# Altium integrated library Altera FLEX 10K.IntLib: 292 symbols (part 35 of 37)
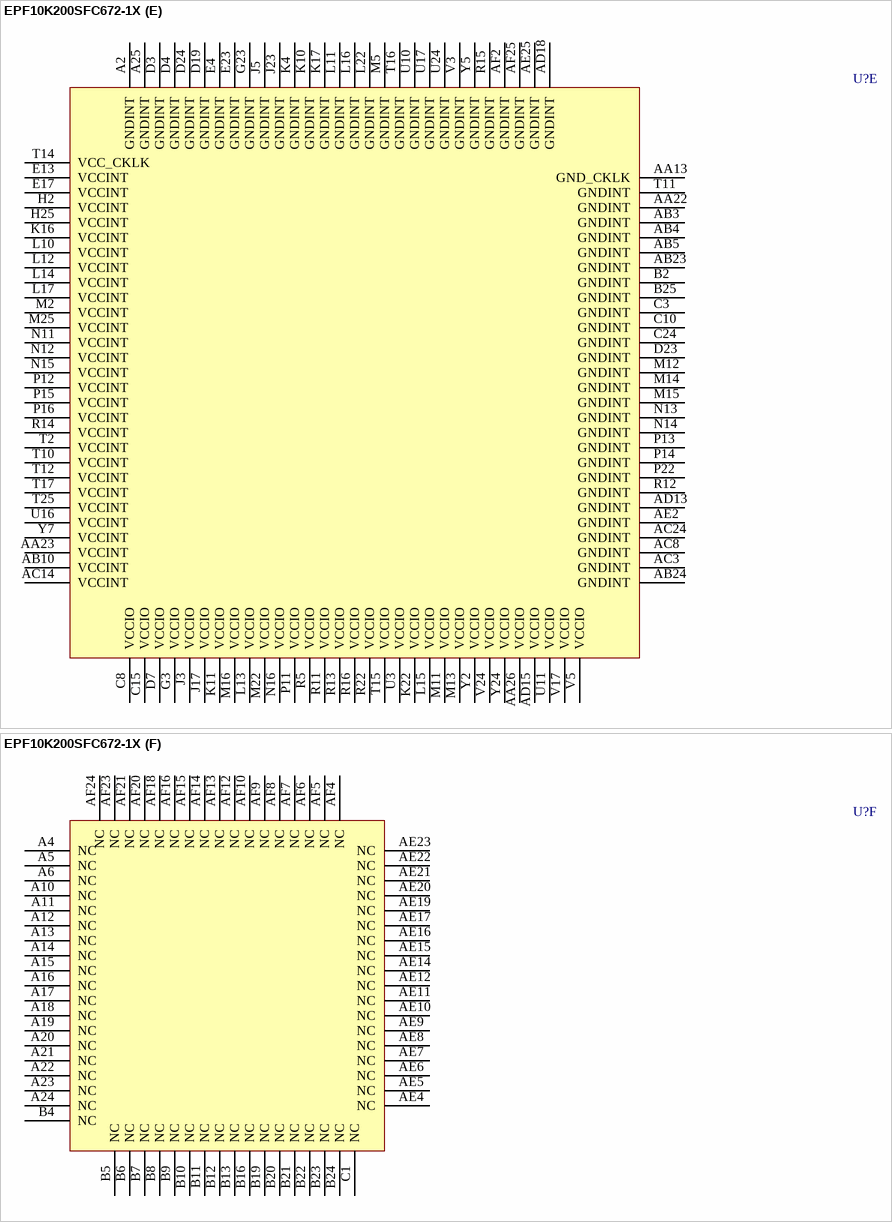
[diagram p432: symbol EPF10K200SFC672-1X]

## EPF10K200SFC672-1X
designator U?
FLEX EPF10K200S 2.5V Embedded PLD, 470 User IO Pins, 672-Pin FBGA, Speed Grade 1, Commercial Grade; Published: 17-Jul-2002; LatestRevisionDate: 13-Apr-2006; LatestRevisionNote: IPC-7351 Footprint Added.; DatasheetVersion: ver2.5, Jan-2003; PackageVersion: ver15.4, Dec-2008; PackageReference: FBGA672; Publisher: Altium Limited; PackageDescription: 672-Ball FineLine Ball Grid Array (FBGA672) - Flip Chip; Code_JEDEC: MS-034-AAL-1; ComponentLink1Description: Manufacturer Link; ComponentLink1URL: http://www.altera.com/products/devices/flex10k/f10-index.html; ComponentLink2Description: Datasheet; ComponentLink2URL: http://www.altera.com/literature/ds/dsf10ke.pdf
footprint FBGA672 (BGA, 672-Leads, Body 27x27mm, Pitch 1mm)
3D model EPF10K200S-FBGA672 (672-Ball FineLine Ball Grid Array (FBGA672) - Flip Chip)
part A pins: A3 I/O (io), A7 I/O (io), A8 I/O (io), A9 I/O (io), B1 I/O (io), B3 I/O (io), B14 I/O (io), B15 I/O (io), B17 I/O (io), B18 I/O (io), B26 I/O (io), C2 I/O (io), C4 I/O (io), C5 I/O (io), C6 I/O (io), C7 I/O (io), C9 I/O (io), C11 I/O (io), C12 I/O (io), C13 I/O (io), C14 I/O (io), C16 I/O (io), C17 I/O (io), C18 I/O (io), C19 I/O (io), C20 I/O (io), C21 I/O (io), C22 I/O (io), C23 I/O (io), C25 I/O (io), C26 I/O (io), D1 I/O (io), D2 I/O (io), D5 I/O (io), D6 I/O (io), D8 I/O (io), D9 I/O (io), D10 I/O (io), D11 I/O (io), D12 I/O (io), D13 I/O (io), D14 I/O (io), D15 I/O (io), D16 I/O (io), D17 I/O (io), D18 I/O (io), D20 I/O (io), D21 I/O (io), D22 I/O (io), D25 I/O (io), D26 I/O (io), E1 I/O (io), E2 I/O (io), E3 I/O (io), E5 I/O (io), E6 I/O (io), E7 I/O (io), E8 I/O (io), E9 I/O (io), E10 I/O (io), E11 I/O (io), E12 I/O (io), E14 I/O (io), E15 I/O (io), E16 I/O (io), E18 I/O (io), E19 I/O (io), E20 I/O (io), E21 I/O (io), E22 I/O (io), E24 I/O (io), E25 I/O (io), E26 I/O (io), F1 I/O (io), F2 I/O (io), F3 I/O (io), F4 I/O (io), F5 I/O (io), F8 I/O (io), F10 I/O (io), F11 I/O (io), F12 I/O (io), F13 I/O (io), F15 I/O (io), F16 I/O (io), F17 I/O (io), F18 I/O (io), F19 I/O (io), F22 I/O (io), F23 I/O (io), F24 I/O (io), F25 I/O (io), F26 I/O (io), G1 I/O (io), G2 I/O (io), G4 I/O (io), G5 I/O (io), G11 I/O (io), G12 I/O (io), G13 I/O (io), G15 I/O (io), G16 I/O (io), G17 I/O (io), G18 I/O (io), G22 I/O (io), G24 I/O (io), G25 I/O (io), G26 I/O (io), H1 I/O (io), H3 I/O (io), H4 I/O (io), H5 I/O (io), H6 I/O (io), H9 I/O (io), H10 I/O (io), H11 I/O (io), H12 I/O (io), H13 I/O (io), H15 I/O (io), H16 I/O (io), H17 I/O (io), H18 I/O (io), H22 I/O (io), H23 I/O (io), H24 I/O (io), H26 I/O (io), J1 I/O (io), J2 I/O (io), J4 I/O (io), J6 I/O (io), J7 I/O (io), J8 I/O (io), J10 I/O (io), J11 I/O (io), J12 I/O (io), J14 I/O (io), J15 I/O (io), J16 I/O (io), J18 I/O (io), J19 I/O (io), J21 I/O (io), J22 I/O (io), J24 I/O (io), J25 I/O (io), J26 I/O (io), K1 I/O (io), K2 I/O (io), K3 I/O (io), K5 I/O (io), K6 I/O (io), K7 I/O (io), K8 I/O (io), K9 I/O (io), K12 I/O (io), K14 I/O (io), K15 I/O (io), K18 I/O (io), K19 I/O (io), K20 I/O (io), K21 I/O (io)
part B pins: K23 I/O (io), K24 I/O (io), K25 I/O (io), K26 I/O (io), L1 I/O (io), L2 I/O (io), L3 I/O (io), L4 I/O (io), L5 I/O (io), L6 I/O (io), L7 I/O (io), L8 I/O (io), L9 I/O (io), L18 I/O (io), L19 I/O (io), L20 I/O (io), L21 I/O (io), L23 I/O (io), L24 I/O (io), L25 I/O (io), L26 I/O (io), M1 I/O (io), M3 I/O (io), M4 I/O (io), M6 I/O (io), M7 I/O (io), M8 I/O (io), M9 I/O (io), M10 I/O (io), M17 I/O (io), M18 I/O (io), M20 I/O (io), M23 I/O (io), M24 I/O (io), M26 I/O (io), N1 I/O (io), N2 I/O (io), N3 I/O (io), N4 I/O (io), N5 I/O (io), N6 I/O (io), N7 I/O (io), N8 I/O (io), N9 I/O (io), N10 I/O (io), N17 I/O (io), N18 I/O (io), N19 I/O (io), N20 I/O (io), N21 I/O (io), N22 I/O (io), N23 I/O (io), N24 I/O (io), N25 I/O (io), N26 I/O (io), P1 I/O (io), P2 I/O (io), P3 I/O (io), P4 I/O (io), P5 I/O (io), P6 I/O (io), P7 I/O (io), P8 I/O (io), P9 I/O (io), P10 I/O (io), P17 I/O (io), P18 I/O (io), P19 I/O (io), P20 I/O (io), P21 I/O (io), P23 I/O (io), P24 I/O (io), P25 I/O (io), P26 I/O (io), R1 I/O (io), R2 I/O (io), R3 I/O (io), R4 I/O (io), R6 I/O (io), R7 I/O (io), R8 I/O (io), R9 I/O (io), R10 I/O (io), R17 I/O (io), R18 I/O (io), R19 I/O (io), R20 I/O (io), R21 I/O (io), R23 I/O (io), R24 I/O (io), R25 I/O (io), R26 I/O (io), T1 I/O (io), T3 I/O (io), T4 I/O (io), T5 I/O (io), T6 I/O (io), T7 I/O (io), T8 I/O (io), T9 I/O (io), T18 I/O (io), T19 I/O (io), T20 I/O (io), T21 I/O (io), T22 I/O (io), T23 I/O (io), T24 I/O (io), T26 I/O (io), U1 I/O (io), U2 I/O (io), U4 I/O (io), U5 I/O (io), U6 I/O (io), U7 I/O (io), U8 I/O (io), U9 I/O (io), U12 I/O (io), U13 I/O (io), U15 I/O (io), U18 I/O (io), U19 I/O (io), U20 I/O (io), U21 I/O (io), U22 I/O (io), U23 I/O (io), U25 I/O (io), U26 I/O (io), V1 I/O (io), V2 I/O (io), V4 I/O (io), V6 I/O (io), V7 I/O (io), V8 I/O (io), V10 I/O (io), V11 I/O (io), V12 I/O (io), V13 I/O (io), V14 I/O (io), V15 I/O (io), V16 I/O (io), V18 I/O (io), V19 I/O (io), V20 I/O (io), V21 I/O (io)
part C pins: AA1 I/O (io), AA2 I/O (io), AA3 I/O (io), AA4 I/O (io), AA5 I/O (io), AA6 I/O (io), AA7 I/O (io), AA8 I/O (io), AA9 I/O (io), AA10 I/O (io), AA11 I/O (io), AA12 I/O (io), AA14 I/O (io), AA15 I/O (io), AA16 I/O (io), AA17 I/O (io), AA18 I/O (io), AA19 I/O (io), AA20 I/O (io), AA24 I/O (io), AA25 I/O (io), AB1 I/O (io), AB2 I/O (io), AB6 I/O (io), AB7 I/O (io), AB8 I/O (io), AB9 I/O (io), AB11 I/O (io), AB12 I/O (io), AB13 I/O (io), AB14 I/O (io), AB15 I/O (io), AB16 I/O (io), AB17 I/O (io), AB18 I/O (io), AB19 I/O (io), AB20 I/O (io), AB21 I/O (io), AB22 I/O (io), AB25 I/O (io), AB26 I/O (io), AC1 I/O (io), AC2 I/O (io), AC4 I/O (io), AC5 I/O (io), AC6 I/O (io), AC7 I/O (io), AC9 I/O (io), AC10 I/O (io), AC11 I/O (io), AC12 I/O (io), AC13 I/O (io), AC15 I/O (io), AC16 I/O (io), AC17 I/O (io), AC18 I/O (io), AC19 I/O (io), AC20 I/O (io), AC21 I/O (io), AC22 I/O (io), AC23 I/O (io), AC25 I/O (io), AC26 I/O (io), AD1 I/O (io), AD2 I/O (io), AD3 I/O (io), AD4 I/O (io), AD5 I/O (io), AD6 I/O (io), AD7 I/O (io), AD8 I/O (io), AD9 I/O (io), AD10 I/O (io), AD11 I/O (io), AD12 I/O (io), AD14 I/O (io), AD16 I/O (io), AD17 I/O (io), AD19 I/O (io), AD20 I/O (io), AD21 I/O (io), AD22 I/O (io), AD23 I/O (io), AD24 I/O (io), AD25 I/O (io), AD26 I/O (io), AE1 I/O (io), AE3 I/O (io), AE13 I/O (io), AE18 I/O (io), AE24 I/O (io), AE26 I/O (io), AF3 I/O (io), AF11 I/O (io), AF17 I/O (io), AF19 I/O (io), AF22 I/O (io), V22 I/O (io), V23 I/O (io), V25 I/O (io), V26 I/O (io), W1 I/O (io), W2 I/O (io), W3 I/O (io), W4 I/O (io), W5 I/O (io), W7 I/O (io), W8 I/O (io), W9 I/O (io), W10 I/O (io), W11 I/O (io), W12 I/O (io), W13 I/O (io), W14 I/O (io), W15 I/O (io), W16 I/O (io), W18 I/O (io), W19 I/O (io), W21 I/O (io), W22 I/O (io), W23 I/O (io), W24 I/O (io), W25 I/O (io), W26 I/O (io), Y1 I/O (io), Y3 I/O (io), Y4 I/O (io), Y8 I/O (io), Y9 I/O (io), Y10 I/O (io), Y11 I/O (io), Y12 I/O (io), Y14 I/O (io), Y15 I/O (io), Y16 I/O (io), Y17 I/O (io), Y18 I/O (io), Y19 I/O (io), Y20 I/O (io), Y22 I/O (io), Y23 I/O (io), Y25 I/O (io), Y26 I/O (io)
part D pins: AA21 nSTATUS (io), F6 DATA0 (in), F7 DATA2 (io), F9 DATA5 (io), F14 CLK (in), F20 CS (io), F21 nCS (io), G6 nCE (in), G7 DCLK (in), G8 DATA1 (io), G9 DATA4 (io), G10 DATA7 (io), G14 INPUT (in), G19 nWS (io), G20 TCK (in), G21 nCEO (out), H7 TDI (in), H8 DATA3 (io), H14 DEV_OE (io), H19 nRS (io), H20 CONF_DONE (in), H21 TDO (out), J9 DATA6 (io), J13 DEV_CLRn (io), J20 CLKUSR (io), K13 INPUT (in), M19 RDYnBSY (io), M21 INIT_DONE (io), T13 CLK/GCLK1 (in), U14 INPUT (in), V9 nCONFIG (in), W6 MSEL0 (in), W17 LOCK (io), W20 TMS (in), Y6 MSEL1 (in), Y13 INPUT (in), Y21 TRST (in)
part E pins: A2 GNDINT (power), A25 GNDINT (power), AA13 GND_CKLK (power), AA22 GNDINT (power), AA23 VCCINT (power), AA26 VCCIO (power), AB3 GNDINT (power), AB4 GNDINT (power), AB5 GNDINT (power), AB10 VCCINT (power), AB23 GNDINT (power), AB24 GNDINT (power), AC3 GNDINT (power), AC8 GNDINT (power), AC14 VCCINT (power), AC24 GNDINT (power), AD13 GNDINT (power), AD15 VCCIO (power), AD18 GNDINT (power), AE2 GNDINT (power), AE25 GNDINT (power), AF2 GNDINT (power), AF25 GNDINT (power), B2 GNDINT (power), B25 GNDINT (power), C3 GNDINT (power), C8 VCCIO (power), C10 GNDINT (power), C15 VCCIO (power), C24 GNDINT (power), D3 GNDINT (power), D4 GNDINT (power), D7 VCCIO (power), D19 GNDINT (power), D23 GNDINT (power), D24 GNDINT (power), E4 GNDINT (power), E13 VCCINT (power), E17 VCCINT (power), E23 GNDINT (power), G3 VCCIO (power), G23 GNDINT (power), H2 VCCINT (power), H25 VCCINT (power), J3 VCCIO (power), J5 GNDINT (power), J17 VCCIO (power), J23 GNDINT (power), K4 GNDINT (power), K10 GNDINT (power), K11 VCCIO (power), K16 VCCINT (power), K17 GNDINT (power), K22 VCCIO (power), L10 VCCINT (power), L11 GNDINT (power), L12 VCCINT (power), L13 VCCIO (power), L14 VCCINT (power), L15 VCCIO (power), L16 GNDINT (power), L17 VCCINT (power), L22 GNDINT (power), M2 VCCINT (power), M5 GNDINT (power), M11 VCCIO (power), M12 GNDINT (power), M13 VCCIO (power), M14 GNDINT (power), M15 GNDINT (power), M16 VCCIO (power), M22 VCCIO (power), M25 VCCINT (power), N11 VCCINT (power), N12 VCCINT (power), N13 GNDINT (power), N14 GNDINT (power), N15 VCCINT (power), N16 VCCIO (power), P11 VCCIO (power), P12 VCCINT (power), P13 GNDINT (power), P14 GNDINT (power), P15 VCCINT (power), P16 VCCINT (power), P22 GNDINT (power), R5 VCCIO (power), R11 VCCIO (power), R12 GNDINT (power), R13 VCCIO (power), R14 VCCINT (power), R15 GNDINT (power), R16 VCCIO (power), R22 VCCIO (power), T2 VCCINT (power), T10 VCCINT (power), T11 GNDINT (power), T12 VCCINT (power), T14 VCC_CKLK (power), T15 VCCIO (power), T16 GNDINT (power), T17 VCCINT (power), T25 VCCINT (power), U3 VCCIO (power), U10 GNDINT (power), U11 VCCIO (power), U16 VCCINT (power), U17 GNDINT (power), U24 GNDINT (power), V3 GNDINT (power), V5 VCCIO (power), V17 VCCIO (power), V24 VCCIO (power), Y2 VCCIO (power), Y5 GNDINT (power), Y7 VCCINT (power), Y24 VCCIO (power)
part F pins: A4 NC, A5 NC, A6 NC, A10 NC, A11 NC, A12 NC, A13 NC, A14 NC, A15 NC, A16 NC, A17 NC, A18 NC, A19 NC, A20 NC, A21 NC, A22 NC, A23 NC, A24 NC, AE4 NC, AE5 NC, AE6 NC, AE7 NC, AE8 NC, AE9 NC, AE10 NC, AE11 NC, AE12 NC, AE14 NC, AE15 NC, AE16 NC, AE17 NC, AE19 NC, AE20 NC, AE21 NC, AE22 NC, AE23 NC, AF4 NC, AF5 NC, AF6 NC, AF7 NC, AF8 NC, AF9 NC, AF10 NC, AF12 NC, AF13 NC, AF14 NC, AF15 NC, AF16 NC, AF18 NC, AF20 NC, AF21 NC, AF23 NC, AF24 NC, B4 NC, B5 NC, B6 NC, B7 NC, B8 NC, B9 NC, B10 NC, B11 NC, B12 NC, B13 NC, B16 NC, B19 NC, B20 NC, B21 NC, B22 NC, B23 NC, B24 NC, C1 NC

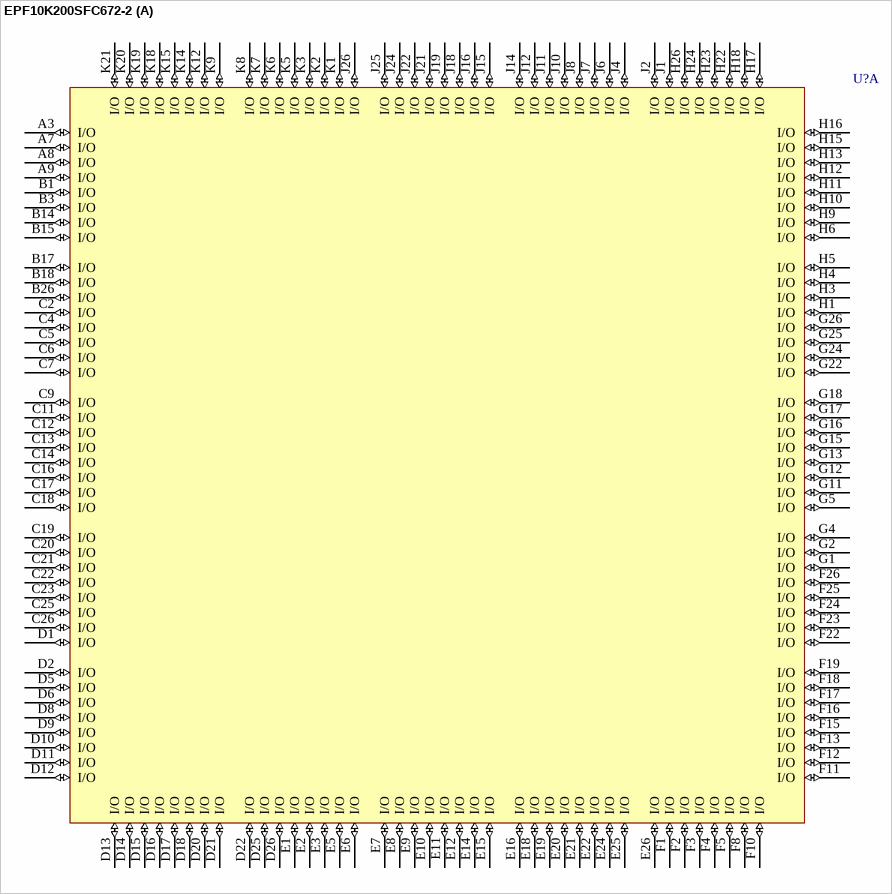
[diagram p371: symbol EPF10K200SFC672-2]

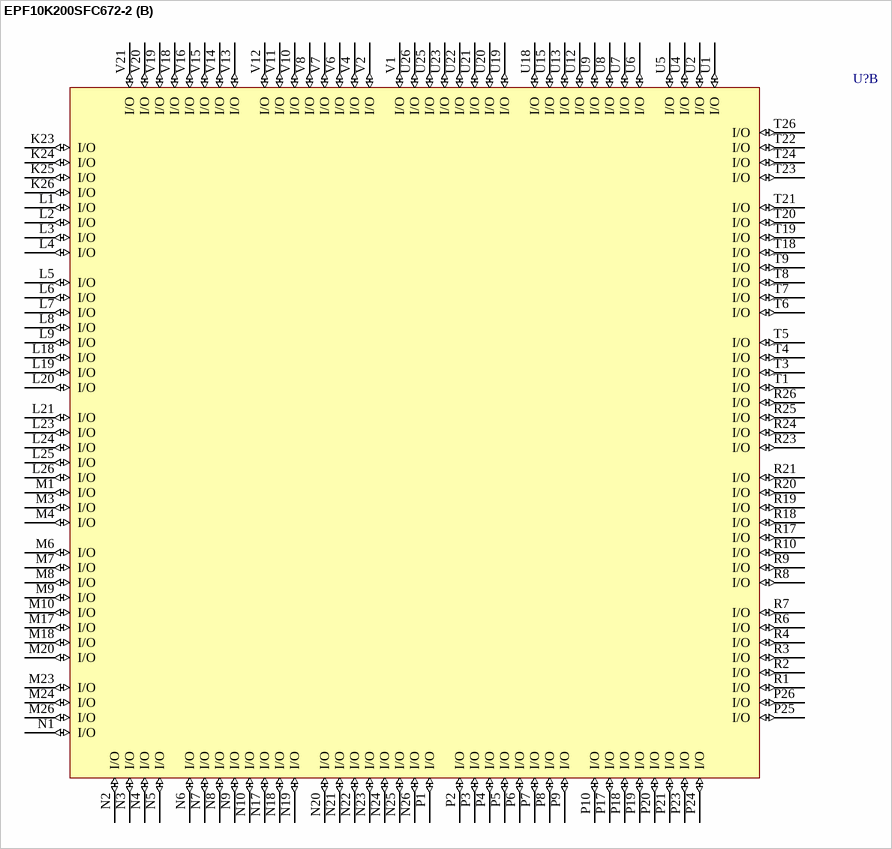
[diagram p372: symbol EPF10K200SFC672-2]

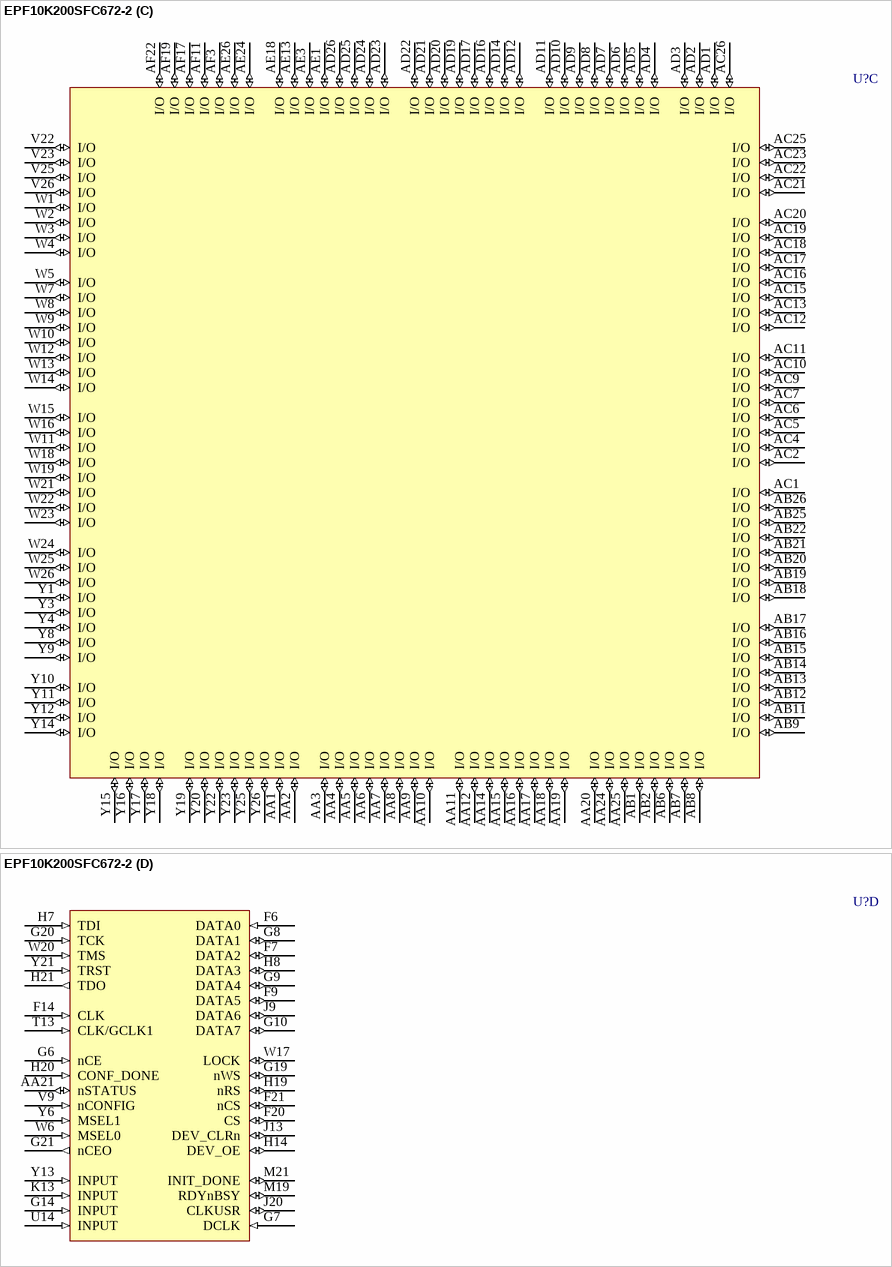
[diagram p373: symbol EPF10K200SFC672-2]

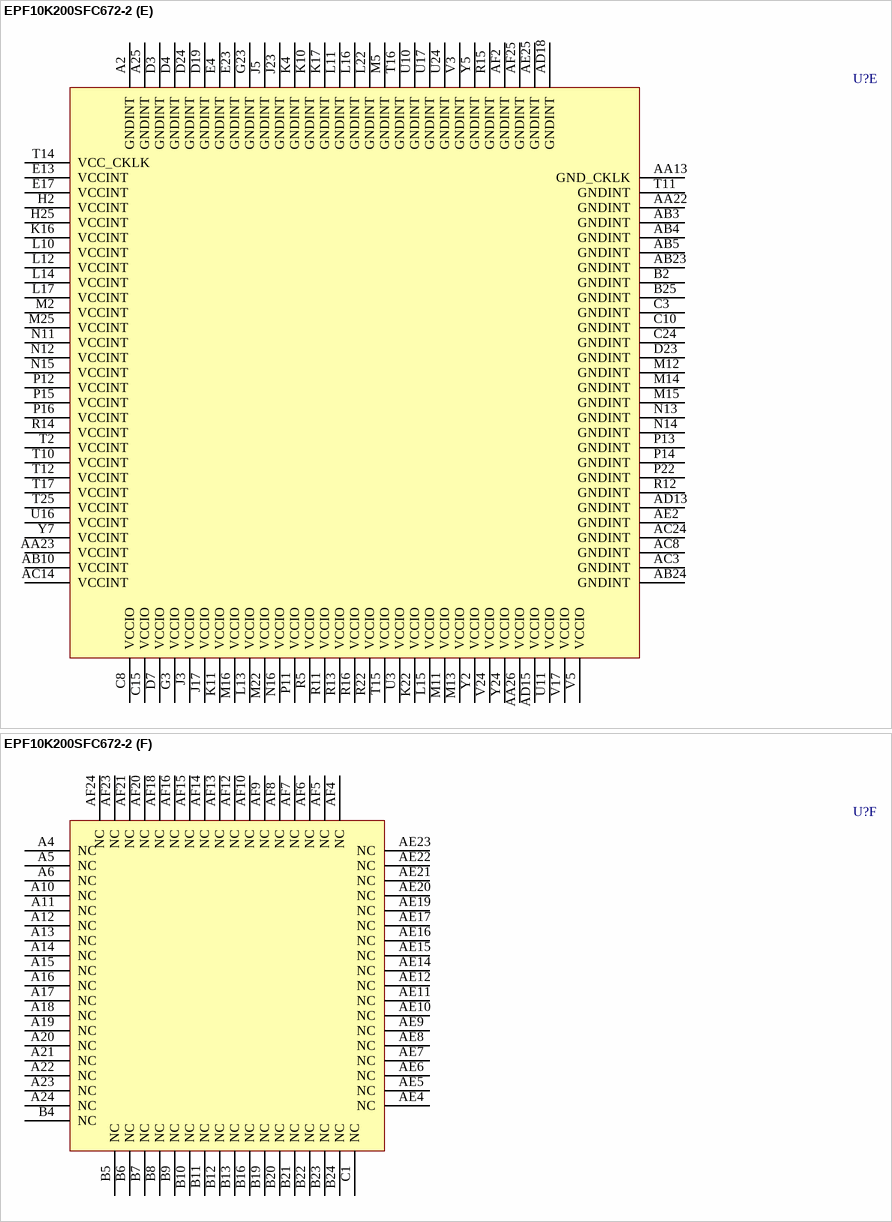
[diagram p374: symbol EPF10K200SFC672-2]

## EPF10K200SFC672-2
designator U?
FLEX EPF10K200S 2.5V Embedded PLD, 470 User IO Pins, 672-Pin FBGA, Speed Grade 2, Commercial Grade; Published: 17-Jul-2002; LatestRevisionDate: 13-Apr-2006; LatestRevisionNote: IPC-7351 Footprint Added.; DatasheetVersion: ver2.5, Jan-2003; PackageVersion: ver15.4, Dec-2008; PackageReference: FBGA672; Publisher: Altium Limited; PackageDescription: 672-Ball FineLine Ball Grid Array (FBGA672) - Flip Chip; Code_JEDEC: MS-034-AAL-1; ComponentLink1Description: Manufacturer Link; ComponentLink1URL: http://www.altera.com/products/devices/flex10k/f10-index.html; ComponentLink2Description: Datasheet; ComponentLink2URL: http://www.altera.com/literature/ds/dsf10ke.pdf
footprint FBGA672 (BGA, 672-Leads, Body 27x27mm, Pitch 1mm)
3D model EPF10K200S-FBGA672 (672-Ball FineLine Ball Grid Array (FBGA672) - Flip Chip)
part A pins: A3 I/O (io), A7 I/O (io), A8 I/O (io), A9 I/O (io), B1 I/O (io), B3 I/O (io), B14 I/O (io), B15 I/O (io), B17 I/O (io), B18 I/O (io), B26 I/O (io), C2 I/O (io), C4 I/O (io), C5 I/O (io), C6 I/O (io), C7 I/O (io), C9 I/O (io), C11 I/O (io), C12 I/O (io), C13 I/O (io), C14 I/O (io), C16 I/O (io), C17 I/O (io), C18 I/O (io), C19 I/O (io), C20 I/O (io), C21 I/O (io), C22 I/O (io), C23 I/O (io), C25 I/O (io), C26 I/O (io), D1 I/O (io), D2 I/O (io), D5 I/O (io), D6 I/O (io), D8 I/O (io), D9 I/O (io), D10 I/O (io), D11 I/O (io), D12 I/O (io), D13 I/O (io), D14 I/O (io), D15 I/O (io), D16 I/O (io), D17 I/O (io), D18 I/O (io), D20 I/O (io), D21 I/O (io), D22 I/O (io), D25 I/O (io), D26 I/O (io), E1 I/O (io), E2 I/O (io), E3 I/O (io), E5 I/O (io), E6 I/O (io), E7 I/O (io), E8 I/O (io), E9 I/O (io), E10 I/O (io), E11 I/O (io), E12 I/O (io), E14 I/O (io), E15 I/O (io), E16 I/O (io), E18 I/O (io), E19 I/O (io), E20 I/O (io), E21 I/O (io), E22 I/O (io), E24 I/O (io), E25 I/O (io), E26 I/O (io), F1 I/O (io), F2 I/O (io), F3 I/O (io), F4 I/O (io), F5 I/O (io), F8 I/O (io), F10 I/O (io), F11 I/O (io), F12 I/O (io), F13 I/O (io), F15 I/O (io), F16 I/O (io), F17 I/O (io), F18 I/O (io), F19 I/O (io), F22 I/O (io), F23 I/O (io), F24 I/O (io), F25 I/O (io), F26 I/O (io), G1 I/O (io), G2 I/O (io), G4 I/O (io), G5 I/O (io), G11 I/O (io), G12 I/O (io), G13 I/O (io), G15 I/O (io), G16 I/O (io), G17 I/O (io), G18 I/O (io), G22 I/O (io), G24 I/O (io), G25 I/O (io), G26 I/O (io), H1 I/O (io), H3 I/O (io), H4 I/O (io), H5 I/O (io), H6 I/O (io), H9 I/O (io), H10 I/O (io), H11 I/O (io), H12 I/O (io), H13 I/O (io), H15 I/O (io), H16 I/O (io), H17 I/O (io), H18 I/O (io), H22 I/O (io), H23 I/O (io), H24 I/O (io), H26 I/O (io), J1 I/O (io), J2 I/O (io), J4 I/O (io), J6 I/O (io), J7 I/O (io), J8 I/O (io), J10 I/O (io), J11 I/O (io), J12 I/O (io), J14 I/O (io), J15 I/O (io), J16 I/O (io), J18 I/O (io), J19 I/O (io), J21 I/O (io), J22 I/O (io), J24 I/O (io), J25 I/O (io), J26 I/O (io), K1 I/O (io), K2 I/O (io), K3 I/O (io), K5 I/O (io), K6 I/O (io), K7 I/O (io), K8 I/O (io), K9 I/O (io), K12 I/O (io), K14 I/O (io), K15 I/O (io), K18 I/O (io), K19 I/O (io), K20 I/O (io), K21 I/O (io)
part B pins: K23 I/O (io), K24 I/O (io), K25 I/O (io), K26 I/O (io), L1 I/O (io), L2 I/O (io), L3 I/O (io), L4 I/O (io), L5 I/O (io), L6 I/O (io), L7 I/O (io), L8 I/O (io), L9 I/O (io), L18 I/O (io), L19 I/O (io), L20 I/O (io), L21 I/O (io), L23 I/O (io), L24 I/O (io), L25 I/O (io), L26 I/O (io), M1 I/O (io), M3 I/O (io), M4 I/O (io), M6 I/O (io), M7 I/O (io), M8 I/O (io), M9 I/O (io), M10 I/O (io), M17 I/O (io), M18 I/O (io), M20 I/O (io), M23 I/O (io), M24 I/O (io), M26 I/O (io), N1 I/O (io), N2 I/O (io), N3 I/O (io), N4 I/O (io), N5 I/O (io), N6 I/O (io), N7 I/O (io), N8 I/O (io), N9 I/O (io), N10 I/O (io), N17 I/O (io), N18 I/O (io), N19 I/O (io), N20 I/O (io), N21 I/O (io), N22 I/O (io), N23 I/O (io), N24 I/O (io), N25 I/O (io), N26 I/O (io), P1 I/O (io), P2 I/O (io), P3 I/O (io), P4 I/O (io), P5 I/O (io), P6 I/O (io), P7 I/O (io), P8 I/O (io), P9 I/O (io), P10 I/O (io), P17 I/O (io), P18 I/O (io), P19 I/O (io), P20 I/O (io), P21 I/O (io), P23 I/O (io), P24 I/O (io), P25 I/O (io), P26 I/O (io), R1 I/O (io), R2 I/O (io), R3 I/O (io), R4 I/O (io), R6 I/O (io), R7 I/O (io), R8 I/O (io), R9 I/O (io), R10 I/O (io), R17 I/O (io), R18 I/O (io), R19 I/O (io), R20 I/O (io), R21 I/O (io), R23 I/O (io), R24 I/O (io), R25 I/O (io), R26 I/O (io), T1 I/O (io), T3 I/O (io), T4 I/O (io), T5 I/O (io), T6 I/O (io), T7 I/O (io), T8 I/O (io), T9 I/O (io), T18 I/O (io), T19 I/O (io), T20 I/O (io), T21 I/O (io), T22 I/O (io), T23 I/O (io), T24 I/O (io), T26 I/O (io), U1 I/O (io), U2 I/O (io), U4 I/O (io), U5 I/O (io), U6 I/O (io), U7 I/O (io), U8 I/O (io), U9 I/O (io), U12 I/O (io), U13 I/O (io), U15 I/O (io), U18 I/O (io), U19 I/O (io), U20 I/O (io), U21 I/O (io), U22 I/O (io), U23 I/O (io), U25 I/O (io), U26 I/O (io), V1 I/O (io), V2 I/O (io), V4 I/O (io), V6 I/O (io), V7 I/O (io), V8 I/O (io), V10 I/O (io), V11 I/O (io), V12 I/O (io), V13 I/O (io), V14 I/O (io), V15 I/O (io), V16 I/O (io), V18 I/O (io), V19 I/O (io), V20 I/O (io), V21 I/O (io)
part C pins: AA1 I/O (io), AA2 I/O (io), AA3 I/O (io), AA4 I/O (io), AA5 I/O (io), AA6 I/O (io), AA7 I/O (io), AA8 I/O (io), AA9 I/O (io), AA10 I/O (io), AA11 I/O (io), AA12 I/O (io), AA14 I/O (io), AA15 I/O (io), AA16 I/O (io), AA17 I/O (io), AA18 I/O (io), AA19 I/O (io), AA20 I/O (io), AA24 I/O (io), AA25 I/O (io), AB1 I/O (io), AB2 I/O (io), AB6 I/O (io), AB7 I/O (io), AB8 I/O (io), AB9 I/O (io), AB11 I/O (io), AB12 I/O (io), AB13 I/O (io), AB14 I/O (io), AB15 I/O (io), AB16 I/O (io), AB17 I/O (io), AB18 I/O (io), AB19 I/O (io), AB20 I/O (io), AB21 I/O (io), AB22 I/O (io), AB25 I/O (io), AB26 I/O (io), AC1 I/O (io), AC2 I/O (io), AC4 I/O (io), AC5 I/O (io), AC6 I/O (io), AC7 I/O (io), AC9 I/O (io), AC10 I/O (io), AC11 I/O (io), AC12 I/O (io), AC13 I/O (io), AC15 I/O (io), AC16 I/O (io), AC17 I/O (io), AC18 I/O (io), AC19 I/O (io), AC20 I/O (io), AC21 I/O (io), AC22 I/O (io), AC23 I/O (io), AC25 I/O (io), AC26 I/O (io), AD1 I/O (io), AD2 I/O (io), AD3 I/O (io), AD4 I/O (io), AD5 I/O (io), AD6 I/O (io), AD7 I/O (io), AD8 I/O (io), AD9 I/O (io), AD10 I/O (io), AD11 I/O (io), AD12 I/O (io), AD14 I/O (io), AD16 I/O (io), AD17 I/O (io), AD19 I/O (io), AD20 I/O (io), AD21 I/O (io), AD22 I/O (io), AD23 I/O (io), AD24 I/O (io), AD25 I/O (io), AD26 I/O (io), AE1 I/O (io), AE3 I/O (io), AE13 I/O (io), AE18 I/O (io), AE24 I/O (io), AE26 I/O (io), AF3 I/O (io), AF11 I/O (io), AF17 I/O (io), AF19 I/O (io), AF22 I/O (io), V22 I/O (io), V23 I/O (io), V25 I/O (io), V26 I/O (io), W1 I/O (io), W2 I/O (io), W3 I/O (io), W4 I/O (io), W5 I/O (io), W7 I/O (io), W8 I/O (io), W9 I/O (io), W10 I/O (io), W11 I/O (io), W12 I/O (io), W13 I/O (io), W14 I/O (io), W15 I/O (io), W16 I/O (io), W18 I/O (io), W19 I/O (io), W21 I/O (io), W22 I/O (io), W23 I/O (io), W24 I/O (io), W25 I/O (io), W26 I/O (io), Y1 I/O (io), Y3 I/O (io), Y4 I/O (io), Y8 I/O (io), Y9 I/O (io), Y10 I/O (io), Y11 I/O (io), Y12 I/O (io), Y14 I/O (io), Y15 I/O (io), Y16 I/O (io), Y17 I/O (io), Y18 I/O (io), Y19 I/O (io), Y20 I/O (io), Y22 I/O (io), Y23 I/O (io), Y25 I/O (io), Y26 I/O (io)
part D pins: AA21 nSTATUS (io), F6 DATA0 (in), F7 DATA2 (io), F9 DATA5 (io), F14 CLK (in), F20 CS (io), F21 nCS (io), G6 nCE (in), G7 DCLK (in), G8 DATA1 (io), G9 DATA4 (io), G10 DATA7 (io), G14 INPUT (in), G19 nWS (io), G20 TCK (in), G21 nCEO (out), H7 TDI (in), H8 DATA3 (io), H14 DEV_OE (io), H19 nRS (io), H20 CONF_DONE (in), H21 TDO (out), J9 DATA6 (io), J13 DEV_CLRn (io), J20 CLKUSR (io), K13 INPUT (in), M19 RDYnBSY (io), M21 INIT_DONE (io), T13 CLK/GCLK1 (in), U14 INPUT (in), V9 nCONFIG (in), W6 MSEL0 (in), W17 LOCK (io), W20 TMS (in), Y6 MSEL1 (in), Y13 INPUT (in), Y21 TRST (in)
part E pins: A2 GNDINT (power), A25 GNDINT (power), AA13 GND_CKLK (power), AA22 GNDINT (power), AA23 VCCINT (power), AA26 VCCIO (power), AB3 GNDINT (power), AB4 GNDINT (power), AB5 GNDINT (power), AB10 VCCINT (power), AB23 GNDINT (power), AB24 GNDINT (power), AC3 GNDINT (power), AC8 GNDINT (power), AC14 VCCINT (power), AC24 GNDINT (power), AD13 GNDINT (power), AD15 VCCIO (power), AD18 GNDINT (power), AE2 GNDINT (power), AE25 GNDINT (power), AF2 GNDINT (power), AF25 GNDINT (power), B2 GNDINT (power), B25 GNDINT (power), C3 GNDINT (power), C8 VCCIO (power), C10 GNDINT (power), C15 VCCIO (power), C24 GNDINT (power), D3 GNDINT (power), D4 GNDINT (power), D7 VCCIO (power), D19 GNDINT (power), D23 GNDINT (power), D24 GNDINT (power), E4 GNDINT (power), E13 VCCINT (power), E17 VCCINT (power), E23 GNDINT (power), G3 VCCIO (power), G23 GNDINT (power), H2 VCCINT (power), H25 VCCINT (power), J3 VCCIO (power), J5 GNDINT (power), J17 VCCIO (power), J23 GNDINT (power), K4 GNDINT (power), K10 GNDINT (power), K11 VCCIO (power), K16 VCCINT (power), K17 GNDINT (power), K22 VCCIO (power), L10 VCCINT (power), L11 GNDINT (power), L12 VCCINT (power), L13 VCCIO (power), L14 VCCINT (power), L15 VCCIO (power), L16 GNDINT (power), L17 VCCINT (power), L22 GNDINT (power), M2 VCCINT (power), M5 GNDINT (power), M11 VCCIO (power), M12 GNDINT (power), M13 VCCIO (power), M14 GNDINT (power), M15 GNDINT (power), M16 VCCIO (power), M22 VCCIO (power), M25 VCCINT (power), N11 VCCINT (power), N12 VCCINT (power), N13 GNDINT (power), N14 GNDINT (power), N15 VCCINT (power), N16 VCCIO (power), P11 VCCIO (power), P12 VCCINT (power), P13 GNDINT (power), P14 GNDINT (power), P15 VCCINT (power), P16 VCCINT (power), P22 GNDINT (power), R5 VCCIO (power), R11 VCCIO (power), R12 GNDINT (power), R13 VCCIO (power), R14 VCCINT (power), R15 GNDINT (power), R16 VCCIO (power), R22 VCCIO (power), T2 VCCINT (power), T10 VCCINT (power), T11 GNDINT (power), T12 VCCINT (power), T14 VCC_CKLK (power), T15 VCCIO (power), T16 GNDINT (power), T17 VCCINT (power), T25 VCCINT (power), U3 VCCIO (power), U10 GNDINT (power), U11 VCCIO (power), U16 VCCINT (power), U17 GNDINT (power), U24 GNDINT (power), V3 GNDINT (power), V5 VCCIO (power), V17 VCCIO (power), V24 VCCIO (power), Y2 VCCIO (power), Y5 GNDINT (power), Y7 VCCINT (power), Y24 VCCIO (power)
part F pins: A4 NC, A5 NC, A6 NC, A10 NC, A11 NC, A12 NC, A13 NC, A14 NC, A15 NC, A16 NC, A17 NC, A18 NC, A19 NC, A20 NC, A21 NC, A22 NC, A23 NC, A24 NC, AE4 NC, AE5 NC, AE6 NC, AE7 NC, AE8 NC, AE9 NC, AE10 NC, AE11 NC, AE12 NC, AE14 NC, AE15 NC, AE16 NC, AE17 NC, AE19 NC, AE20 NC, AE21 NC, AE22 NC, AE23 NC, AF4 NC, AF5 NC, AF6 NC, AF7 NC, AF8 NC, AF9 NC, AF10 NC, AF12 NC, AF13 NC, AF14 NC, AF15 NC, AF16 NC, AF18 NC, AF20 NC, AF21 NC, AF23 NC, AF24 NC, B4 NC, B5 NC, B6 NC, B7 NC, B8 NC, B9 NC, B10 NC, B11 NC, B12 NC, B13 NC, B16 NC, B19 NC, B20 NC, B21 NC, B22 NC, B23 NC, B24 NC, C1 NC

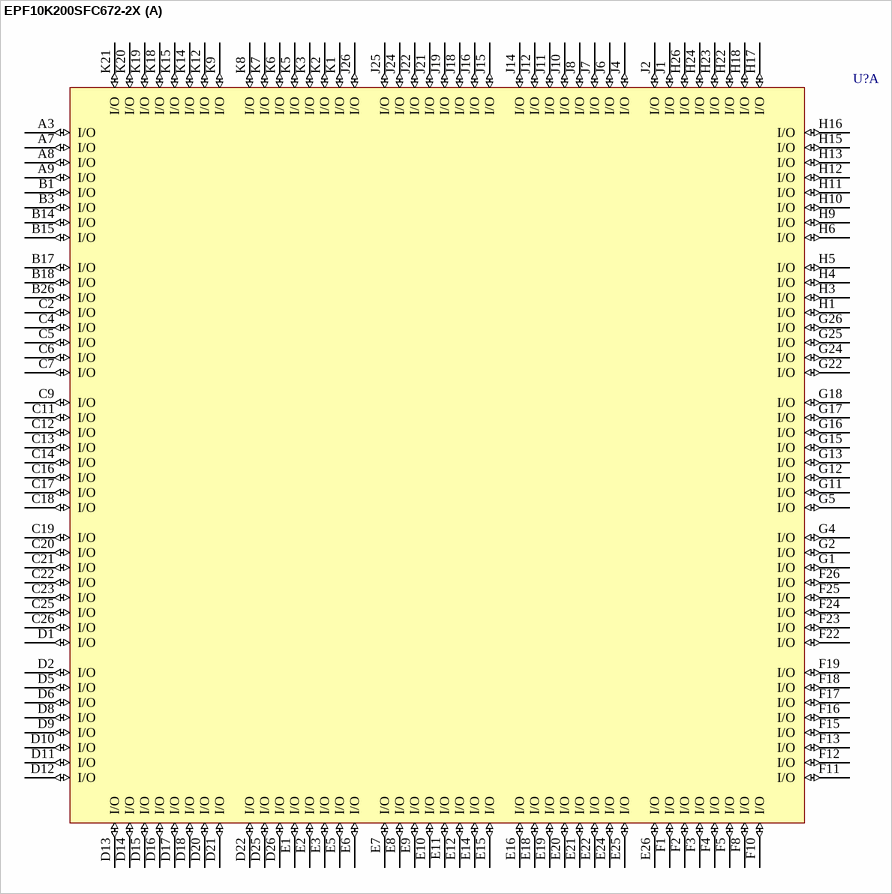
[diagram p375: symbol EPF10K200SFC672-2X]

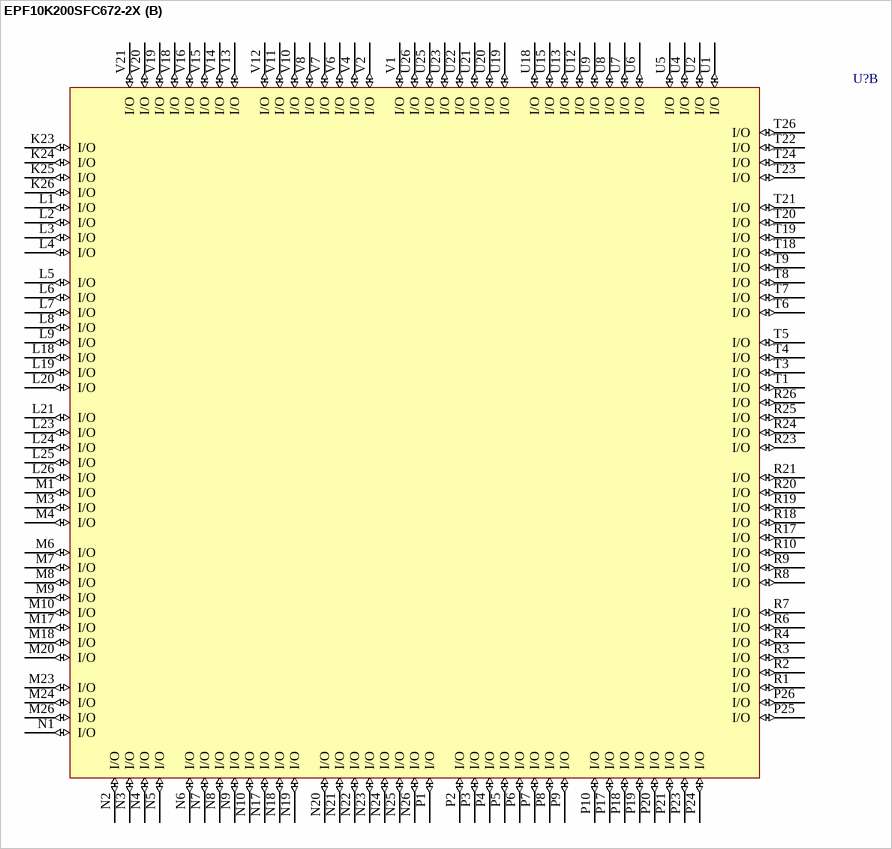
[diagram p376: symbol EPF10K200SFC672-2X]

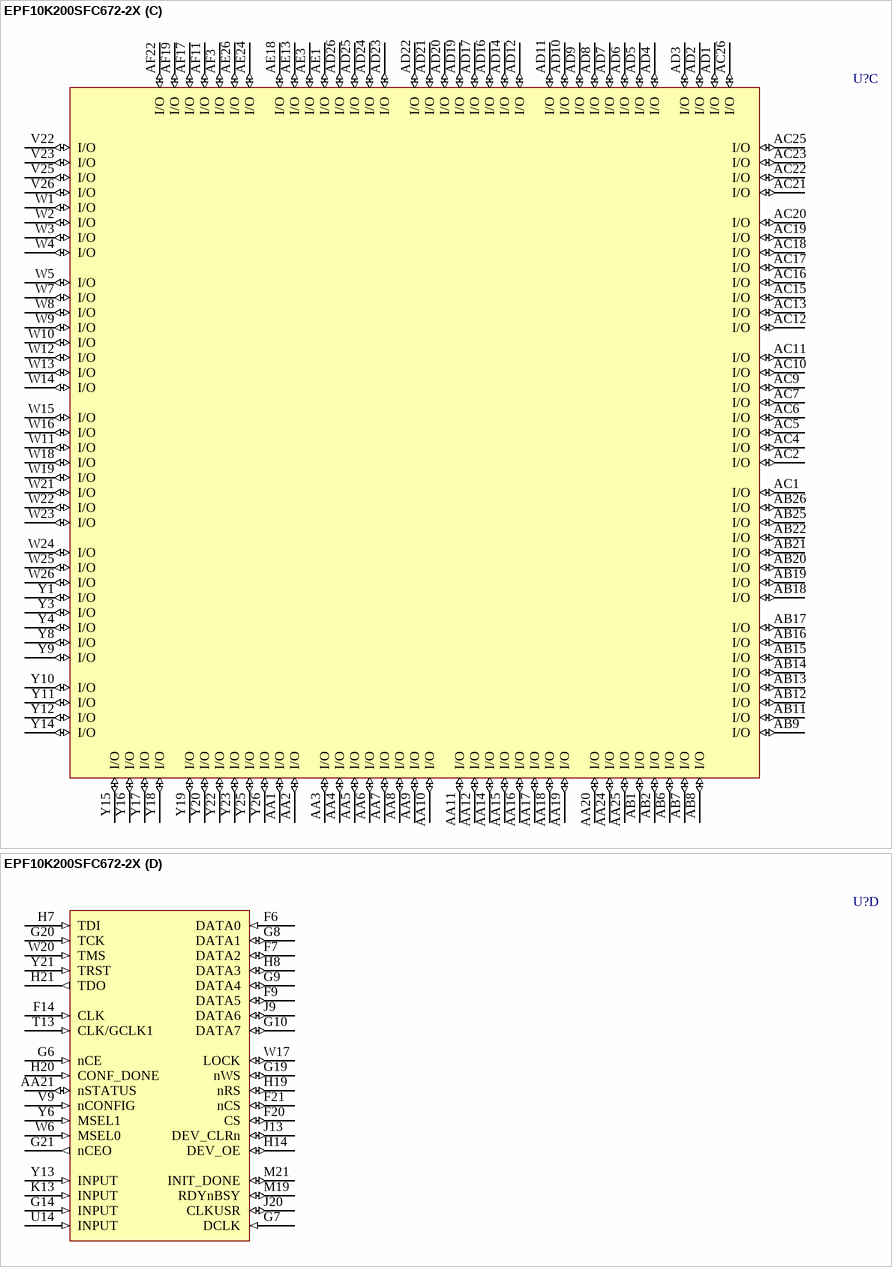
[diagram p377: symbol EPF10K200SFC672-2X]

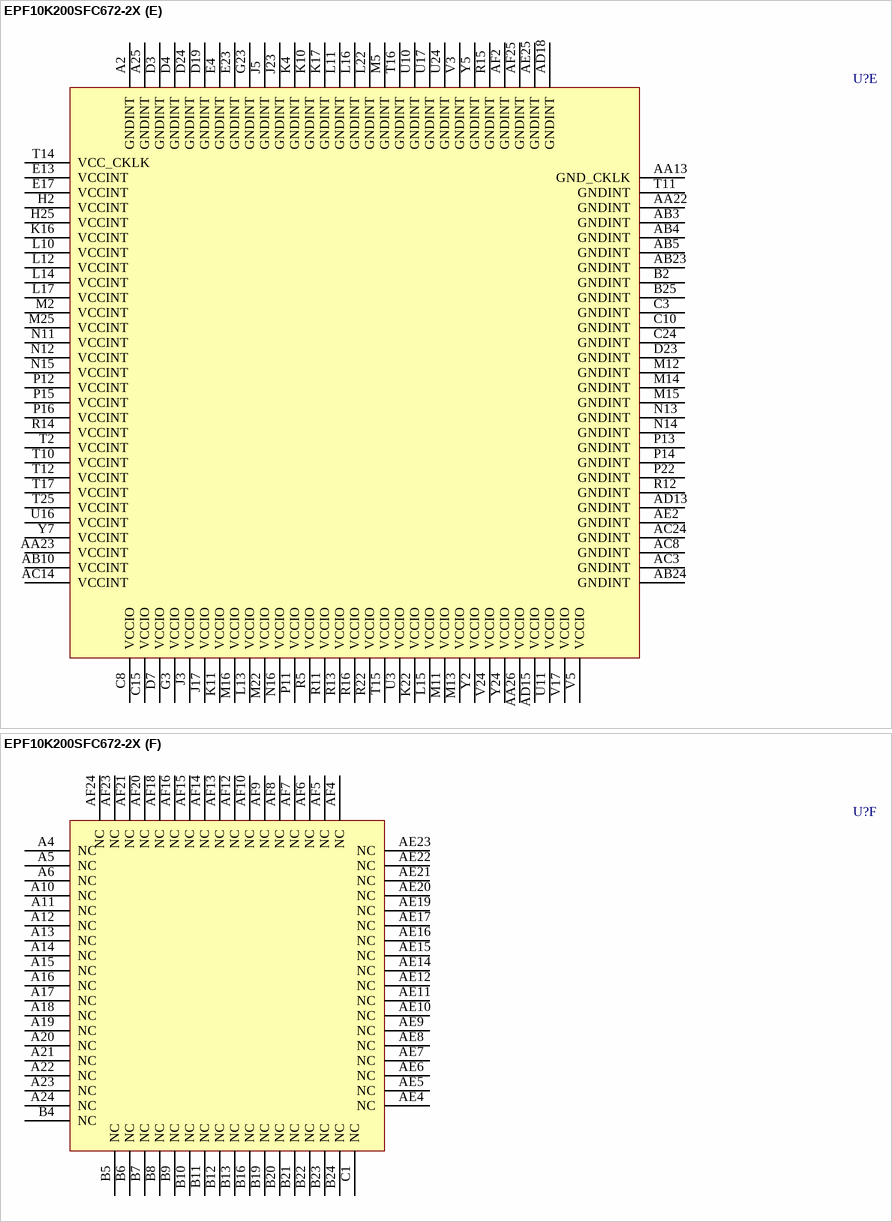
[diagram p378: symbol EPF10K200SFC672-2X]

## EPF10K200SFC672-2X
designator U?
FLEX EPF10K200S 2.5V Embedded PLD, 470 User IO Pins, 672-Pin FBGA, Speed Grade 2, Commercial Grade; Published: 17-Jul-2002; LatestRevisionDate: 13-Apr-2006; LatestRevisionNote: IPC-7351 Footprint Added.; DatasheetVersion: ver2.5, Jan-2003; PackageVersion: ver15.4, Dec-2008; PackageReference: FBGA672; Publisher: Altium Limited; PackageDescription: 672-Ball FineLine Ball Grid Array (FBGA672) - Flip Chip; Code_JEDEC: MS-034-AAL-1; ComponentLink1Description: Manufacturer Link; ComponentLink1URL: http://www.altera.com/products/devices/flex10k/f10-index.html; ComponentLink2Description: Datasheet; ComponentLink2URL: http://www.altera.com/literature/ds/dsf10ke.pdf
footprint FBGA672 (BGA, 672-Leads, Body 27x27mm, Pitch 1mm)
3D model EPF10K200S-FBGA672 (672-Ball FineLine Ball Grid Array (FBGA672) - Flip Chip)
part A pins: A3 I/O (io), A7 I/O (io), A8 I/O (io), A9 I/O (io), B1 I/O (io), B3 I/O (io), B14 I/O (io), B15 I/O (io), B17 I/O (io), B18 I/O (io), B26 I/O (io), C2 I/O (io), C4 I/O (io), C5 I/O (io), C6 I/O (io), C7 I/O (io), C9 I/O (io), C11 I/O (io), C12 I/O (io), C13 I/O (io), C14 I/O (io), C16 I/O (io), C17 I/O (io), C18 I/O (io), C19 I/O (io), C20 I/O (io), C21 I/O (io), C22 I/O (io), C23 I/O (io), C25 I/O (io), C26 I/O (io), D1 I/O (io), D2 I/O (io), D5 I/O (io), D6 I/O (io), D8 I/O (io), D9 I/O (io), D10 I/O (io), D11 I/O (io), D12 I/O (io), D13 I/O (io), D14 I/O (io), D15 I/O (io), D16 I/O (io), D17 I/O (io), D18 I/O (io), D20 I/O (io), D21 I/O (io), D22 I/O (io), D25 I/O (io), D26 I/O (io), E1 I/O (io), E2 I/O (io), E3 I/O (io), E5 I/O (io), E6 I/O (io), E7 I/O (io), E8 I/O (io), E9 I/O (io), E10 I/O (io), E11 I/O (io), E12 I/O (io), E14 I/O (io), E15 I/O (io), E16 I/O (io), E18 I/O (io), E19 I/O (io), E20 I/O (io), E21 I/O (io), E22 I/O (io), E24 I/O (io), E25 I/O (io), E26 I/O (io), F1 I/O (io), F2 I/O (io), F3 I/O (io), F4 I/O (io), F5 I/O (io), F8 I/O (io), F10 I/O (io), F11 I/O (io), F12 I/O (io), F13 I/O (io), F15 I/O (io), F16 I/O (io), F17 I/O (io), F18 I/O (io), F19 I/O (io), F22 I/O (io), F23 I/O (io), F24 I/O (io), F25 I/O (io), F26 I/O (io), G1 I/O (io), G2 I/O (io), G4 I/O (io), G5 I/O (io), G11 I/O (io), G12 I/O (io), G13 I/O (io), G15 I/O (io), G16 I/O (io), G17 I/O (io), G18 I/O (io), G22 I/O (io), G24 I/O (io), G25 I/O (io), G26 I/O (io), H1 I/O (io), H3 I/O (io), H4 I/O (io), H5 I/O (io), H6 I/O (io), H9 I/O (io), H10 I/O (io), H11 I/O (io), H12 I/O (io), H13 I/O (io), H15 I/O (io), H16 I/O (io), H17 I/O (io), H18 I/O (io), H22 I/O (io), H23 I/O (io), H24 I/O (io), H26 I/O (io), J1 I/O (io), J2 I/O (io), J4 I/O (io), J6 I/O (io), J7 I/O (io), J8 I/O (io), J10 I/O (io), J11 I/O (io), J12 I/O (io), J14 I/O (io), J15 I/O (io), J16 I/O (io), J18 I/O (io), J19 I/O (io), J21 I/O (io), J22 I/O (io), J24 I/O (io), J25 I/O (io), J26 I/O (io), K1 I/O (io), K2 I/O (io), K3 I/O (io), K5 I/O (io), K6 I/O (io), K7 I/O (io), K8 I/O (io), K9 I/O (io), K12 I/O (io), K14 I/O (io), K15 I/O (io), K18 I/O (io), K19 I/O (io), K20 I/O (io), K21 I/O (io)
part B pins: K23 I/O (io), K24 I/O (io), K25 I/O (io), K26 I/O (io), L1 I/O (io), L2 I/O (io), L3 I/O (io), L4 I/O (io), L5 I/O (io), L6 I/O (io), L7 I/O (io), L8 I/O (io), L9 I/O (io), L18 I/O (io), L19 I/O (io), L20 I/O (io), L21 I/O (io), L23 I/O (io), L24 I/O (io), L25 I/O (io), L26 I/O (io), M1 I/O (io), M3 I/O (io), M4 I/O (io), M6 I/O (io), M7 I/O (io), M8 I/O (io), M9 I/O (io), M10 I/O (io), M17 I/O (io), M18 I/O (io), M20 I/O (io), M23 I/O (io), M24 I/O (io), M26 I/O (io), N1 I/O (io), N2 I/O (io), N3 I/O (io), N4 I/O (io), N5 I/O (io), N6 I/O (io), N7 I/O (io), N8 I/O (io), N9 I/O (io), N10 I/O (io), N17 I/O (io), N18 I/O (io), N19 I/O (io), N20 I/O (io), N21 I/O (io), N22 I/O (io), N23 I/O (io), N24 I/O (io), N25 I/O (io), N26 I/O (io), P1 I/O (io), P2 I/O (io), P3 I/O (io), P4 I/O (io), P5 I/O (io), P6 I/O (io), P7 I/O (io), P8 I/O (io), P9 I/O (io), P10 I/O (io), P17 I/O (io), P18 I/O (io), P19 I/O (io), P20 I/O (io), P21 I/O (io), P23 I/O (io), P24 I/O (io), P25 I/O (io), P26 I/O (io), R1 I/O (io), R2 I/O (io), R3 I/O (io), R4 I/O (io), R6 I/O (io), R7 I/O (io), R8 I/O (io), R9 I/O (io), R10 I/O (io), R17 I/O (io), R18 I/O (io), R19 I/O (io), R20 I/O (io), R21 I/O (io), R23 I/O (io), R24 I/O (io), R25 I/O (io), R26 I/O (io), T1 I/O (io), T3 I/O (io), T4 I/O (io), T5 I/O (io), T6 I/O (io), T7 I/O (io), T8 I/O (io), T9 I/O (io), T18 I/O (io), T19 I/O (io), T20 I/O (io), T21 I/O (io), T22 I/O (io), T23 I/O (io), T24 I/O (io), T26 I/O (io), U1 I/O (io), U2 I/O (io), U4 I/O (io), U5 I/O (io), U6 I/O (io), U7 I/O (io), U8 I/O (io), U9 I/O (io), U12 I/O (io), U13 I/O (io), U15 I/O (io), U18 I/O (io), U19 I/O (io), U20 I/O (io), U21 I/O (io), U22 I/O (io), U23 I/O (io), U25 I/O (io), U26 I/O (io), V1 I/O (io), V2 I/O (io), V4 I/O (io), V6 I/O (io), V7 I/O (io), V8 I/O (io), V10 I/O (io), V11 I/O (io), V12 I/O (io), V13 I/O (io), V14 I/O (io), V15 I/O (io), V16 I/O (io), V18 I/O (io), V19 I/O (io), V20 I/O (io), V21 I/O (io)
part C pins: AA1 I/O (io), AA2 I/O (io), AA3 I/O (io), AA4 I/O (io), AA5 I/O (io), AA6 I/O (io), AA7 I/O (io), AA8 I/O (io), AA9 I/O (io), AA10 I/O (io), AA11 I/O (io), AA12 I/O (io), AA14 I/O (io), AA15 I/O (io), AA16 I/O (io), AA17 I/O (io), AA18 I/O (io), AA19 I/O (io), AA20 I/O (io), AA24 I/O (io), AA25 I/O (io), AB1 I/O (io), AB2 I/O (io), AB6 I/O (io), AB7 I/O (io), AB8 I/O (io), AB9 I/O (io), AB11 I/O (io), AB12 I/O (io), AB13 I/O (io), AB14 I/O (io), AB15 I/O (io), AB16 I/O (io), AB17 I/O (io), AB18 I/O (io), AB19 I/O (io), AB20 I/O (io), AB21 I/O (io), AB22 I/O (io), AB25 I/O (io), AB26 I/O (io), AC1 I/O (io), AC2 I/O (io), AC4 I/O (io), AC5 I/O (io), AC6 I/O (io), AC7 I/O (io), AC9 I/O (io), AC10 I/O (io), AC11 I/O (io), AC12 I/O (io), AC13 I/O (io), AC15 I/O (io), AC16 I/O (io), AC17 I/O (io), AC18 I/O (io), AC19 I/O (io), AC20 I/O (io), AC21 I/O (io), AC22 I/O (io), AC23 I/O (io), AC25 I/O (io), AC26 I/O (io), AD1 I/O (io), AD2 I/O (io), AD3 I/O (io), AD4 I/O (io), AD5 I/O (io), AD6 I/O (io), AD7 I/O (io), AD8 I/O (io), AD9 I/O (io), AD10 I/O (io), AD11 I/O (io), AD12 I/O (io), AD14 I/O (io), AD16 I/O (io), AD17 I/O (io), AD19 I/O (io), AD20 I/O (io), AD21 I/O (io), AD22 I/O (io), AD23 I/O (io), AD24 I/O (io), AD25 I/O (io), AD26 I/O (io), AE1 I/O (io), AE3 I/O (io), AE13 I/O (io), AE18 I/O (io), AE24 I/O (io), AE26 I/O (io), AF3 I/O (io), AF11 I/O (io), AF17 I/O (io), AF19 I/O (io), AF22 I/O (io), V22 I/O (io), V23 I/O (io), V25 I/O (io), V26 I/O (io), W1 I/O (io), W2 I/O (io), W3 I/O (io), W4 I/O (io), W5 I/O (io), W7 I/O (io), W8 I/O (io), W9 I/O (io), W10 I/O (io), W11 I/O (io), W12 I/O (io), W13 I/O (io), W14 I/O (io), W15 I/O (io), W16 I/O (io), W18 I/O (io), W19 I/O (io), W21 I/O (io), W22 I/O (io), W23 I/O (io), W24 I/O (io), W25 I/O (io), W26 I/O (io), Y1 I/O (io), Y3 I/O (io), Y4 I/O (io), Y8 I/O (io), Y9 I/O (io), Y10 I/O (io), Y11 I/O (io), Y12 I/O (io), Y14 I/O (io), Y15 I/O (io), Y16 I/O (io), Y17 I/O (io), Y18 I/O (io), Y19 I/O (io), Y20 I/O (io), Y22 I/O (io), Y23 I/O (io), Y25 I/O (io), Y26 I/O (io)
part D pins: AA21 nSTATUS (io), F6 DATA0 (in), F7 DATA2 (io), F9 DATA5 (io), F14 CLK (in), F20 CS (io), F21 nCS (io), G6 nCE (in), G7 DCLK (in), G8 DATA1 (io), G9 DATA4 (io), G10 DATA7 (io), G14 INPUT (in), G19 nWS (io), G20 TCK (in), G21 nCEO (out), H7 TDI (in), H8 DATA3 (io), H14 DEV_OE (io), H19 nRS (io), H20 CONF_DONE (in), H21 TDO (out), J9 DATA6 (io), J13 DEV_CLRn (io), J20 CLKUSR (io), K13 INPUT (in), M19 RDYnBSY (io), M21 INIT_DONE (io), T13 CLK/GCLK1 (in), U14 INPUT (in), V9 nCONFIG (in), W6 MSEL0 (in), W17 LOCK (io), W20 TMS (in), Y6 MSEL1 (in), Y13 INPUT (in), Y21 TRST (in)
part E pins: A2 GNDINT (power), A25 GNDINT (power), AA13 GND_CKLK (power), AA22 GNDINT (power), AA23 VCCINT (power), AA26 VCCIO (power), AB3 GNDINT (power), AB4 GNDINT (power), AB5 GNDINT (power), AB10 VCCINT (power), AB23 GNDINT (power), AB24 GNDINT (power), AC3 GNDINT (power), AC8 GNDINT (power), AC14 VCCINT (power), AC24 GNDINT (power), AD13 GNDINT (power), AD15 VCCIO (power), AD18 GNDINT (power), AE2 GNDINT (power), AE25 GNDINT (power), AF2 GNDINT (power), AF25 GNDINT (power), B2 GNDINT (power), B25 GNDINT (power), C3 GNDINT (power), C8 VCCIO (power), C10 GNDINT (power), C15 VCCIO (power), C24 GNDINT (power), D3 GNDINT (power), D4 GNDINT (power), D7 VCCIO (power), D19 GNDINT (power), D23 GNDINT (power), D24 GNDINT (power), E4 GNDINT (power), E13 VCCINT (power), E17 VCCINT (power), E23 GNDINT (power), G3 VCCIO (power), G23 GNDINT (power), H2 VCCINT (power), H25 VCCINT (power), J3 VCCIO (power), J5 GNDINT (power), J17 VCCIO (power), J23 GNDINT (power), K4 GNDINT (power), K10 GNDINT (power), K11 VCCIO (power), K16 VCCINT (power), K17 GNDINT (power), K22 VCCIO (power), L10 VCCINT (power), L11 GNDINT (power), L12 VCCINT (power), L13 VCCIO (power), L14 VCCINT (power), L15 VCCIO (power), L16 GNDINT (power), L17 VCCINT (power), L22 GNDINT (power), M2 VCCINT (power), M5 GNDINT (power), M11 VCCIO (power), M12 GNDINT (power), M13 VCCIO (power), M14 GNDINT (power), M15 GNDINT (power), M16 VCCIO (power), M22 VCCIO (power), M25 VCCINT (power), N11 VCCINT (power), N12 VCCINT (power), N13 GNDINT (power), N14 GNDINT (power), N15 VCCINT (power), N16 VCCIO (power), P11 VCCIO (power), P12 VCCINT (power), P13 GNDINT (power), P14 GNDINT (power), P15 VCCINT (power), P16 VCCINT (power), P22 GNDINT (power), R5 VCCIO (power), R11 VCCIO (power), R12 GNDINT (power), R13 VCCIO (power), R14 VCCINT (power), R15 GNDINT (power), R16 VCCIO (power), R22 VCCIO (power), T2 VCCINT (power), T10 VCCINT (power), T11 GNDINT (power), T12 VCCINT (power), T14 VCC_CKLK (power), T15 VCCIO (power), T16 GNDINT (power), T17 VCCINT (power), T25 VCCINT (power), U3 VCCIO (power), U10 GNDINT (power), U11 VCCIO (power), U16 VCCINT (power), U17 GNDINT (power), U24 GNDINT (power), V3 GNDINT (power), V5 VCCIO (power), V17 VCCIO (power), V24 VCCIO (power), Y2 VCCIO (power), Y5 GNDINT (power), Y7 VCCINT (power), Y24 VCCIO (power)
part F pins: A4 NC, A5 NC, A6 NC, A10 NC, A11 NC, A12 NC, A13 NC, A14 NC, A15 NC, A16 NC, A17 NC, A18 NC, A19 NC, A20 NC, A21 NC, A22 NC, A23 NC, A24 NC, AE4 NC, AE5 NC, AE6 NC, AE7 NC, AE8 NC, AE9 NC, AE10 NC, AE11 NC, AE12 NC, AE14 NC, AE15 NC, AE16 NC, AE17 NC, AE19 NC, AE20 NC, AE21 NC, AE22 NC, AE23 NC, AF4 NC, AF5 NC, AF6 NC, AF7 NC, AF8 NC, AF9 NC, AF10 NC, AF12 NC, AF13 NC, AF14 NC, AF15 NC, AF16 NC, AF18 NC, AF20 NC, AF21 NC, AF23 NC, AF24 NC, B4 NC, B5 NC, B6 NC, B7 NC, B8 NC, B9 NC, B10 NC, B11 NC, B12 NC, B13 NC, B16 NC, B19 NC, B20 NC, B21 NC, B22 NC, B23 NC, B24 NC, C1 NC

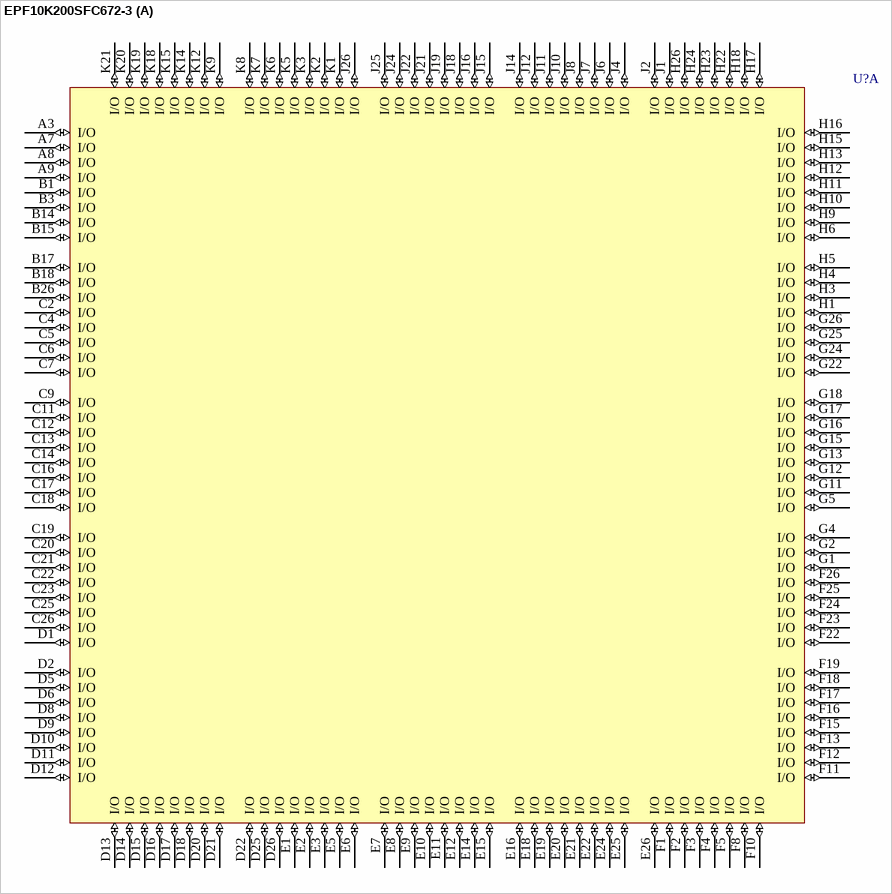
[diagram p379: symbol EPF10K200SFC672-3]

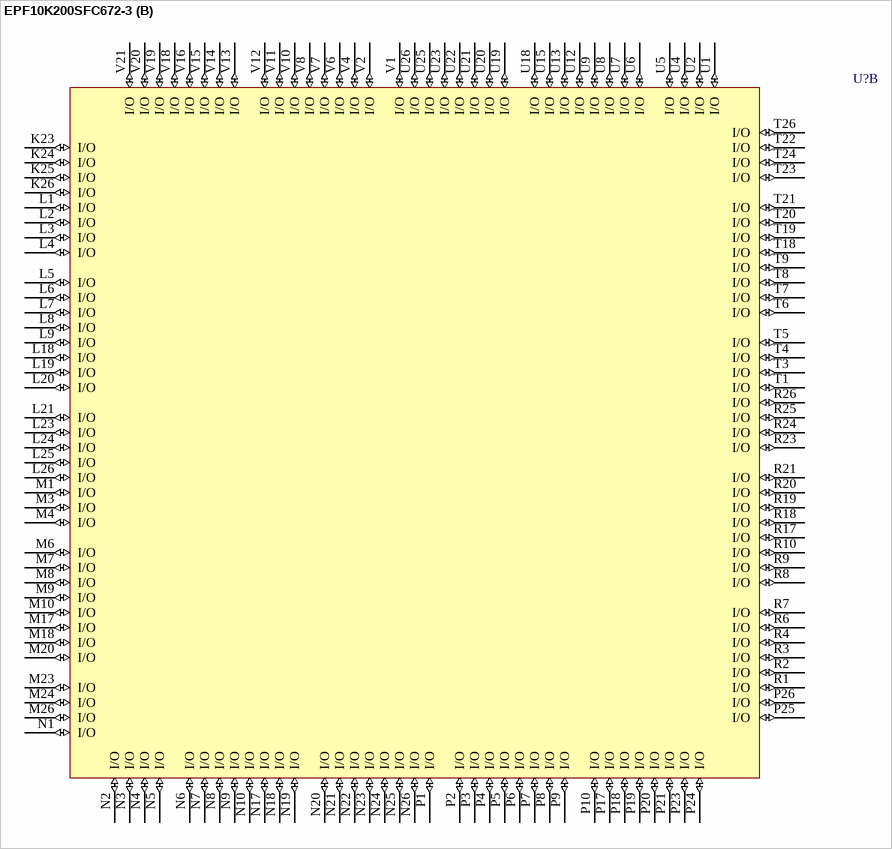
[diagram p380: symbol EPF10K200SFC672-3]

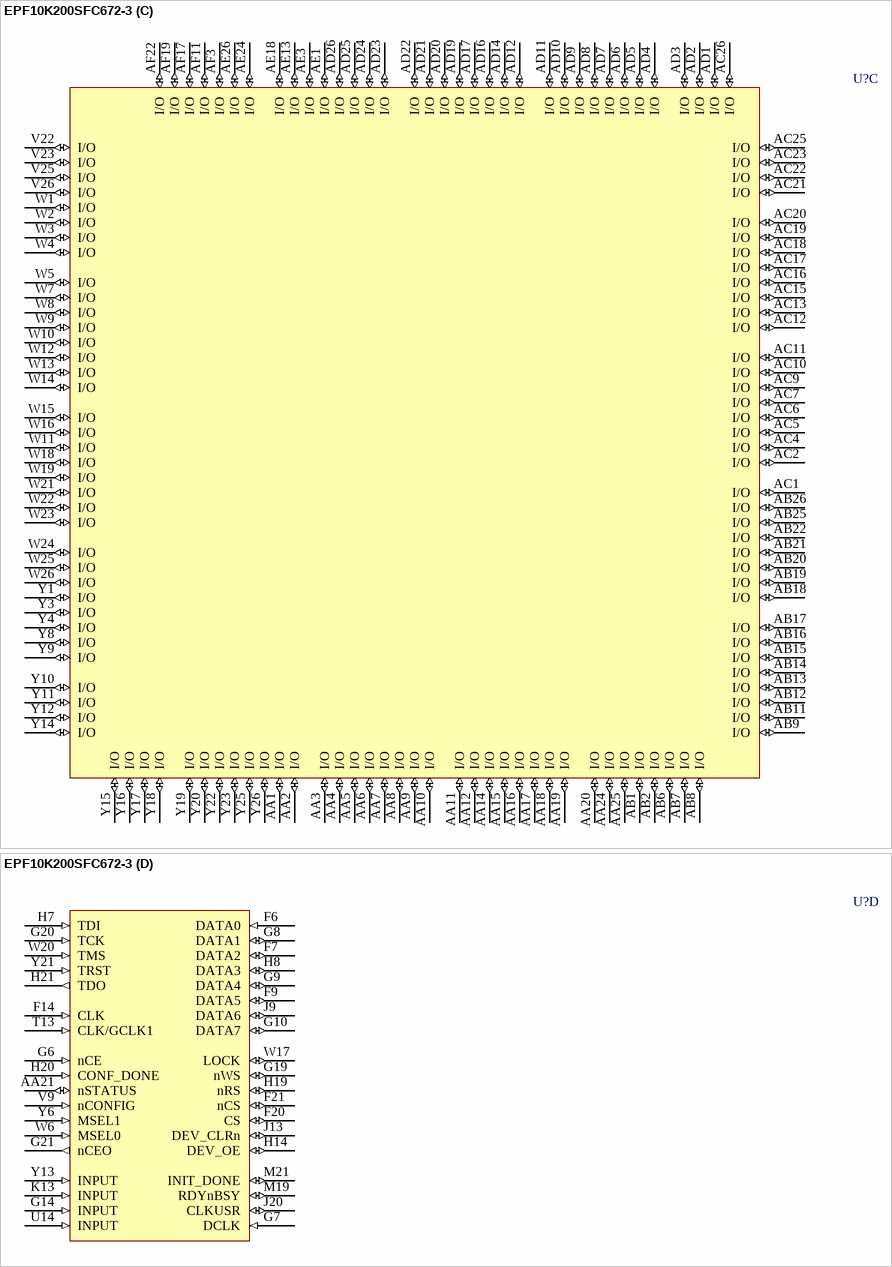
[diagram p381: symbol EPF10K200SFC672-3]

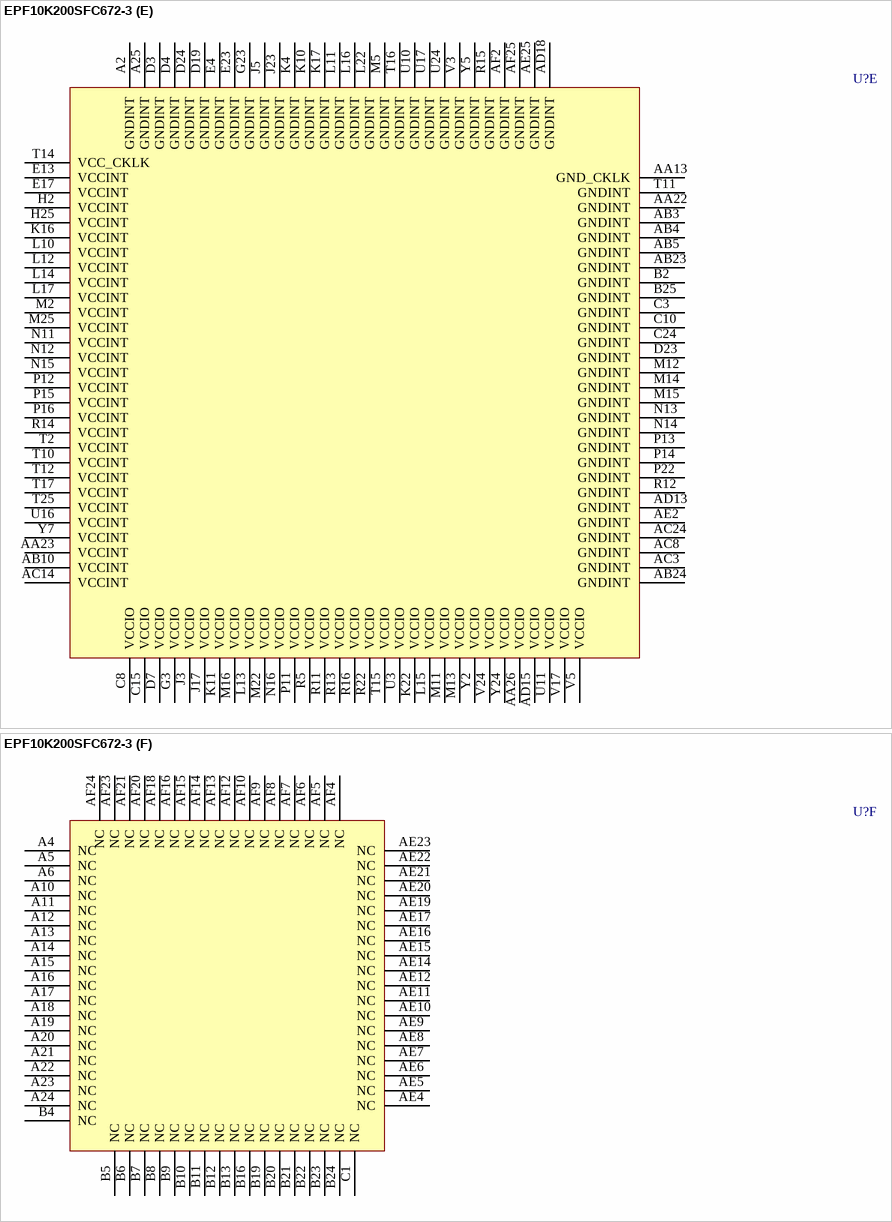
[diagram p382: symbol EPF10K200SFC672-3]

## EPF10K200SFC672-3
designator U?
FLEX EPF10K200S 2.5V Embedded PLD, 470 User IO Pins, 672-Pin FBGA, Speed Grade 3, Commercial Grade; Published: 17-Jul-2002; LatestRevisionDate: 13-Apr-2006; LatestRevisionNote: IPC-7351 Footprint Added.; DatasheetVersion: ver2.5, Jan-2003; PackageVersion: ver15.4, Dec-2008; PackageReference: FBGA672; Publisher: Altium Limited; PackageDescription: 672-Ball FineLine Ball Grid Array (FBGA672) - Flip Chip; Code_JEDEC: MS-034-AAL-1; ComponentLink1Description: Manufacturer Link; ComponentLink1URL: http://www.altera.com/products/devices/flex10k/f10-index.html; ComponentLink2Description: Datasheet; ComponentLink2URL: http://www.altera.com/literature/ds/dsf10ke.pdf
footprint FBGA672 (BGA, 672-Leads, Body 27x27mm, Pitch 1mm)
3D model EPF10K200S-FBGA672 (672-Ball FineLine Ball Grid Array (FBGA672) - Flip Chip)
part A pins: A3 I/O (io), A7 I/O (io), A8 I/O (io), A9 I/O (io), B1 I/O (io), B3 I/O (io), B14 I/O (io), B15 I/O (io), B17 I/O (io), B18 I/O (io), B26 I/O (io), C2 I/O (io), C4 I/O (io), C5 I/O (io), C6 I/O (io), C7 I/O (io), C9 I/O (io), C11 I/O (io), C12 I/O (io), C13 I/O (io), C14 I/O (io), C16 I/O (io), C17 I/O (io), C18 I/O (io), C19 I/O (io), C20 I/O (io), C21 I/O (io), C22 I/O (io), C23 I/O (io), C25 I/O (io), C26 I/O (io), D1 I/O (io), D2 I/O (io), D5 I/O (io), D6 I/O (io), D8 I/O (io), D9 I/O (io), D10 I/O (io), D11 I/O (io), D12 I/O (io), D13 I/O (io), D14 I/O (io), D15 I/O (io), D16 I/O (io), D17 I/O (io), D18 I/O (io), D20 I/O (io), D21 I/O (io), D22 I/O (io), D25 I/O (io), D26 I/O (io), E1 I/O (io), E2 I/O (io), E3 I/O (io), E5 I/O (io), E6 I/O (io), E7 I/O (io), E8 I/O (io), E9 I/O (io), E10 I/O (io), E11 I/O (io), E12 I/O (io), E14 I/O (io), E15 I/O (io), E16 I/O (io), E18 I/O (io), E19 I/O (io), E20 I/O (io), E21 I/O (io), E22 I/O (io), E24 I/O (io), E25 I/O (io), E26 I/O (io), F1 I/O (io), F2 I/O (io), F3 I/O (io), F4 I/O (io), F5 I/O (io), F8 I/O (io), F10 I/O (io), F11 I/O (io), F12 I/O (io), F13 I/O (io), F15 I/O (io), F16 I/O (io), F17 I/O (io), F18 I/O (io), F19 I/O (io), F22 I/O (io), F23 I/O (io), F24 I/O (io), F25 I/O (io), F26 I/O (io), G1 I/O (io), G2 I/O (io), G4 I/O (io), G5 I/O (io), G11 I/O (io), G12 I/O (io), G13 I/O (io), G15 I/O (io), G16 I/O (io), G17 I/O (io), G18 I/O (io), G22 I/O (io), G24 I/O (io), G25 I/O (io), G26 I/O (io), H1 I/O (io), H3 I/O (io), H4 I/O (io), H5 I/O (io), H6 I/O (io), H9 I/O (io), H10 I/O (io), H11 I/O (io), H12 I/O (io), H13 I/O (io), H15 I/O (io), H16 I/O (io), H17 I/O (io), H18 I/O (io), H22 I/O (io), H23 I/O (io), H24 I/O (io), H26 I/O (io), J1 I/O (io), J2 I/O (io), J4 I/O (io), J6 I/O (io), J7 I/O (io), J8 I/O (io), J10 I/O (io), J11 I/O (io), J12 I/O (io), J14 I/O (io), J15 I/O (io), J16 I/O (io), J18 I/O (io), J19 I/O (io), J21 I/O (io), J22 I/O (io), J24 I/O (io), J25 I/O (io), J26 I/O (io), K1 I/O (io), K2 I/O (io), K3 I/O (io), K5 I/O (io), K6 I/O (io), K7 I/O (io), K8 I/O (io), K9 I/O (io), K12 I/O (io), K14 I/O (io), K15 I/O (io), K18 I/O (io), K19 I/O (io), K20 I/O (io), K21 I/O (io)
part B pins: K23 I/O (io), K24 I/O (io), K25 I/O (io), K26 I/O (io), L1 I/O (io), L2 I/O (io), L3 I/O (io), L4 I/O (io), L5 I/O (io), L6 I/O (io), L7 I/O (io), L8 I/O (io), L9 I/O (io), L18 I/O (io), L19 I/O (io), L20 I/O (io), L21 I/O (io), L23 I/O (io), L24 I/O (io), L25 I/O (io), L26 I/O (io), M1 I/O (io), M3 I/O (io), M4 I/O (io), M6 I/O (io), M7 I/O (io), M8 I/O (io), M9 I/O (io), M10 I/O (io), M17 I/O (io), M18 I/O (io), M20 I/O (io), M23 I/O (io), M24 I/O (io), M26 I/O (io), N1 I/O (io), N2 I/O (io), N3 I/O (io), N4 I/O (io), N5 I/O (io), N6 I/O (io), N7 I/O (io), N8 I/O (io), N9 I/O (io), N10 I/O (io), N17 I/O (io), N18 I/O (io), N19 I/O (io), N20 I/O (io), N21 I/O (io), N22 I/O (io), N23 I/O (io), N24 I/O (io), N25 I/O (io), N26 I/O (io), P1 I/O (io), P2 I/O (io), P3 I/O (io), P4 I/O (io), P5 I/O (io), P6 I/O (io), P7 I/O (io), P8 I/O (io), P9 I/O (io), P10 I/O (io), P17 I/O (io), P18 I/O (io), P19 I/O (io), P20 I/O (io), P21 I/O (io), P23 I/O (io), P24 I/O (io), P25 I/O (io), P26 I/O (io), R1 I/O (io), R2 I/O (io), R3 I/O (io), R4 I/O (io), R6 I/O (io), R7 I/O (io), R8 I/O (io), R9 I/O (io), R10 I/O (io), R17 I/O (io), R18 I/O (io), R19 I/O (io), R20 I/O (io), R21 I/O (io), R23 I/O (io), R24 I/O (io), R25 I/O (io), R26 I/O (io), T1 I/O (io), T3 I/O (io), T4 I/O (io), T5 I/O (io), T6 I/O (io), T7 I/O (io), T8 I/O (io), T9 I/O (io), T18 I/O (io), T19 I/O (io), T20 I/O (io), T21 I/O (io), T22 I/O (io), T23 I/O (io), T24 I/O (io), T26 I/O (io), U1 I/O (io), U2 I/O (io), U4 I/O (io), U5 I/O (io), U6 I/O (io), U7 I/O (io), U8 I/O (io), U9 I/O (io), U12 I/O (io), U13 I/O (io), U15 I/O (io), U18 I/O (io), U19 I/O (io), U20 I/O (io), U21 I/O (io), U22 I/O (io), U23 I/O (io), U25 I/O (io), U26 I/O (io), V1 I/O (io), V2 I/O (io), V4 I/O (io), V6 I/O (io), V7 I/O (io), V8 I/O (io), V10 I/O (io), V11 I/O (io), V12 I/O (io), V13 I/O (io), V14 I/O (io), V15 I/O (io), V16 I/O (io), V18 I/O (io), V19 I/O (io), V20 I/O (io), V21 I/O (io)
part C pins: AA1 I/O (io), AA2 I/O (io), AA3 I/O (io), AA4 I/O (io), AA5 I/O (io), AA6 I/O (io), AA7 I/O (io), AA8 I/O (io), AA9 I/O (io), AA10 I/O (io), AA11 I/O (io), AA12 I/O (io), AA14 I/O (io), AA15 I/O (io), AA16 I/O (io), AA17 I/O (io), AA18 I/O (io), AA19 I/O (io), AA20 I/O (io), AA24 I/O (io), AA25 I/O (io), AB1 I/O (io), AB2 I/O (io), AB6 I/O (io), AB7 I/O (io), AB8 I/O (io), AB9 I/O (io), AB11 I/O (io), AB12 I/O (io), AB13 I/O (io), AB14 I/O (io), AB15 I/O (io), AB16 I/O (io), AB17 I/O (io), AB18 I/O (io), AB19 I/O (io), AB20 I/O (io), AB21 I/O (io), AB22 I/O (io), AB25 I/O (io), AB26 I/O (io), AC1 I/O (io), AC2 I/O (io), AC4 I/O (io), AC5 I/O (io), AC6 I/O (io), AC7 I/O (io), AC9 I/O (io), AC10 I/O (io), AC11 I/O (io), AC12 I/O (io), AC13 I/O (io), AC15 I/O (io), AC16 I/O (io), AC17 I/O (io), AC18 I/O (io), AC19 I/O (io), AC20 I/O (io), AC21 I/O (io), AC22 I/O (io), AC23 I/O (io), AC25 I/O (io), AC26 I/O (io), AD1 I/O (io), AD2 I/O (io), AD3 I/O (io), AD4 I/O (io), AD5 I/O (io), AD6 I/O (io), AD7 I/O (io), AD8 I/O (io), AD9 I/O (io), AD10 I/O (io), AD11 I/O (io), AD12 I/O (io), AD14 I/O (io), AD16 I/O (io), AD17 I/O (io), AD19 I/O (io), AD20 I/O (io), AD21 I/O (io), AD22 I/O (io), AD23 I/O (io), AD24 I/O (io), AD25 I/O (io), AD26 I/O (io), AE1 I/O (io), AE3 I/O (io), AE13 I/O (io), AE18 I/O (io), AE24 I/O (io), AE26 I/O (io), AF3 I/O (io), AF11 I/O (io), AF17 I/O (io), AF19 I/O (io), AF22 I/O (io), V22 I/O (io), V23 I/O (io), V25 I/O (io), V26 I/O (io), W1 I/O (io), W2 I/O (io), W3 I/O (io), W4 I/O (io), W5 I/O (io), W7 I/O (io), W8 I/O (io), W9 I/O (io), W10 I/O (io), W11 I/O (io), W12 I/O (io), W13 I/O (io), W14 I/O (io), W15 I/O (io), W16 I/O (io), W18 I/O (io), W19 I/O (io), W21 I/O (io), W22 I/O (io), W23 I/O (io), W24 I/O (io), W25 I/O (io), W26 I/O (io), Y1 I/O (io), Y3 I/O (io), Y4 I/O (io), Y8 I/O (io), Y9 I/O (io), Y10 I/O (io), Y11 I/O (io), Y12 I/O (io), Y14 I/O (io), Y15 I/O (io), Y16 I/O (io), Y17 I/O (io), Y18 I/O (io), Y19 I/O (io), Y20 I/O (io), Y22 I/O (io), Y23 I/O (io), Y25 I/O (io), Y26 I/O (io)
part D pins: AA21 nSTATUS (io), F6 DATA0 (in), F7 DATA2 (io), F9 DATA5 (io), F14 CLK (in), F20 CS (io), F21 nCS (io), G6 nCE (in), G7 DCLK (in), G8 DATA1 (io), G9 DATA4 (io), G10 DATA7 (io), G14 INPUT (in), G19 nWS (io), G20 TCK (in), G21 nCEO (out), H7 TDI (in), H8 DATA3 (io), H14 DEV_OE (io), H19 nRS (io), H20 CONF_DONE (in), H21 TDO (out), J9 DATA6 (io), J13 DEV_CLRn (io), J20 CLKUSR (io), K13 INPUT (in), M19 RDYnBSY (io), M21 INIT_DONE (io), T13 CLK/GCLK1 (in), U14 INPUT (in), V9 nCONFIG (in), W6 MSEL0 (in), W17 LOCK (io), W20 TMS (in), Y6 MSEL1 (in), Y13 INPUT (in), Y21 TRST (in)
part E pins: A2 GNDINT (power), A25 GNDINT (power), AA13 GND_CKLK (power), AA22 GNDINT (power), AA23 VCCINT (power), AA26 VCCIO (power), AB3 GNDINT (power), AB4 GNDINT (power), AB5 GNDINT (power), AB10 VCCINT (power), AB23 GNDINT (power), AB24 GNDINT (power), AC3 GNDINT (power), AC8 GNDINT (power), AC14 VCCINT (power), AC24 GNDINT (power), AD13 GNDINT (power), AD15 VCCIO (power), AD18 GNDINT (power), AE2 GNDINT (power), AE25 GNDINT (power), AF2 GNDINT (power), AF25 GNDINT (power), B2 GNDINT (power), B25 GNDINT (power), C3 GNDINT (power), C8 VCCIO (power), C10 GNDINT (power), C15 VCCIO (power), C24 GNDINT (power), D3 GNDINT (power), D4 GNDINT (power), D7 VCCIO (power), D19 GNDINT (power), D23 GNDINT (power), D24 GNDINT (power), E4 GNDINT (power), E13 VCCINT (power), E17 VCCINT (power), E23 GNDINT (power), G3 VCCIO (power), G23 GNDINT (power), H2 VCCINT (power), H25 VCCINT (power), J3 VCCIO (power), J5 GNDINT (power), J17 VCCIO (power), J23 GNDINT (power), K4 GNDINT (power), K10 GNDINT (power), K11 VCCIO (power), K16 VCCINT (power), K17 GNDINT (power), K22 VCCIO (power), L10 VCCINT (power), L11 GNDINT (power), L12 VCCINT (power), L13 VCCIO (power), L14 VCCINT (power), L15 VCCIO (power), L16 GNDINT (power), L17 VCCINT (power), L22 GNDINT (power), M2 VCCINT (power), M5 GNDINT (power), M11 VCCIO (power), M12 GNDINT (power), M13 VCCIO (power), M14 GNDINT (power), M15 GNDINT (power), M16 VCCIO (power), M22 VCCIO (power), M25 VCCINT (power), N11 VCCINT (power), N12 VCCINT (power), N13 GNDINT (power), N14 GNDINT (power), N15 VCCINT (power), N16 VCCIO (power), P11 VCCIO (power), P12 VCCINT (power), P13 GNDINT (power), P14 GNDINT (power), P15 VCCINT (power), P16 VCCINT (power), P22 GNDINT (power), R5 VCCIO (power), R11 VCCIO (power), R12 GNDINT (power), R13 VCCIO (power), R14 VCCINT (power), R15 GNDINT (power), R16 VCCIO (power), R22 VCCIO (power), T2 VCCINT (power), T10 VCCINT (power), T11 GNDINT (power), T12 VCCINT (power), T14 VCC_CKLK (power), T15 VCCIO (power), T16 GNDINT (power), T17 VCCINT (power), T25 VCCINT (power), U3 VCCIO (power), U10 GNDINT (power), U11 VCCIO (power), U16 VCCINT (power), U17 GNDINT (power), U24 GNDINT (power), V3 GNDINT (power), V5 VCCIO (power), V17 VCCIO (power), V24 VCCIO (power), Y2 VCCIO (power), Y5 GNDINT (power), Y7 VCCINT (power), Y24 VCCIO (power)
part F pins: A4 NC, A5 NC, A6 NC, A10 NC, A11 NC, A12 NC, A13 NC, A14 NC, A15 NC, A16 NC, A17 NC, A18 NC, A19 NC, A20 NC, A21 NC, A22 NC, A23 NC, A24 NC, AE4 NC, AE5 NC, AE6 NC, AE7 NC, AE8 NC, AE9 NC, AE10 NC, AE11 NC, AE12 NC, AE14 NC, AE15 NC, AE16 NC, AE17 NC, AE19 NC, AE20 NC, AE21 NC, AE22 NC, AE23 NC, AF4 NC, AF5 NC, AF6 NC, AF7 NC, AF8 NC, AF9 NC, AF10 NC, AF12 NC, AF13 NC, AF14 NC, AF15 NC, AF16 NC, AF18 NC, AF20 NC, AF21 NC, AF23 NC, AF24 NC, B4 NC, B5 NC, B6 NC, B7 NC, B8 NC, B9 NC, B10 NC, B11 NC, B12 NC, B13 NC, B16 NC, B19 NC, B20 NC, B21 NC, B22 NC, B23 NC, B24 NC, C1 NC

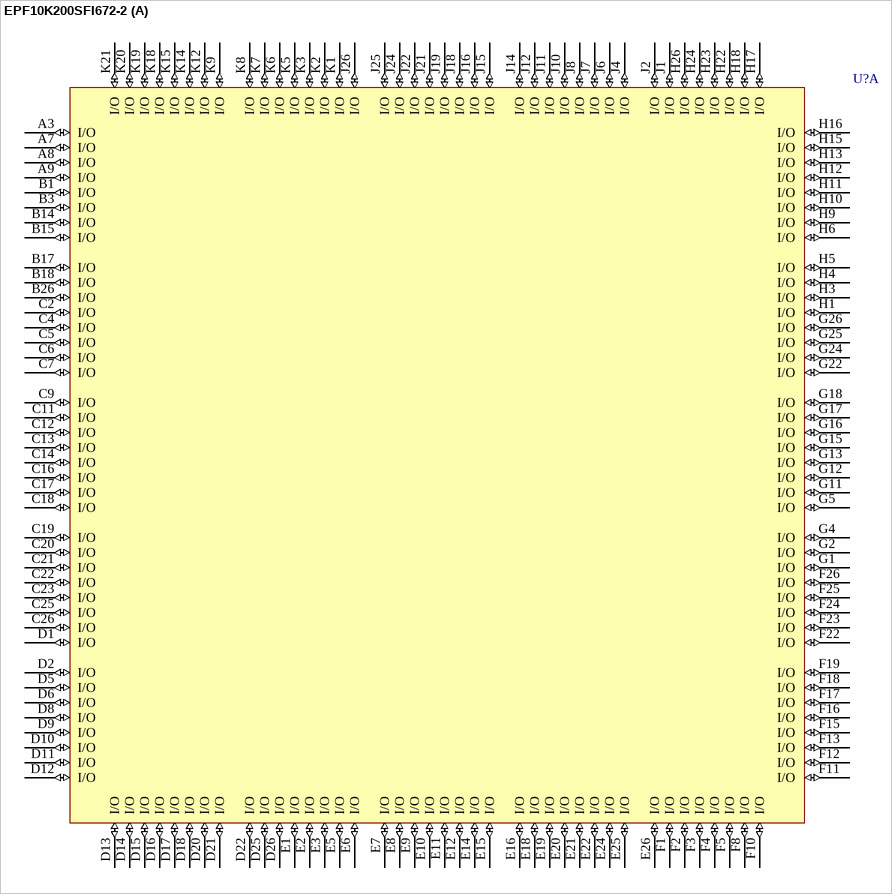
[diagram p383: symbol EPF10K200SFI672-2]

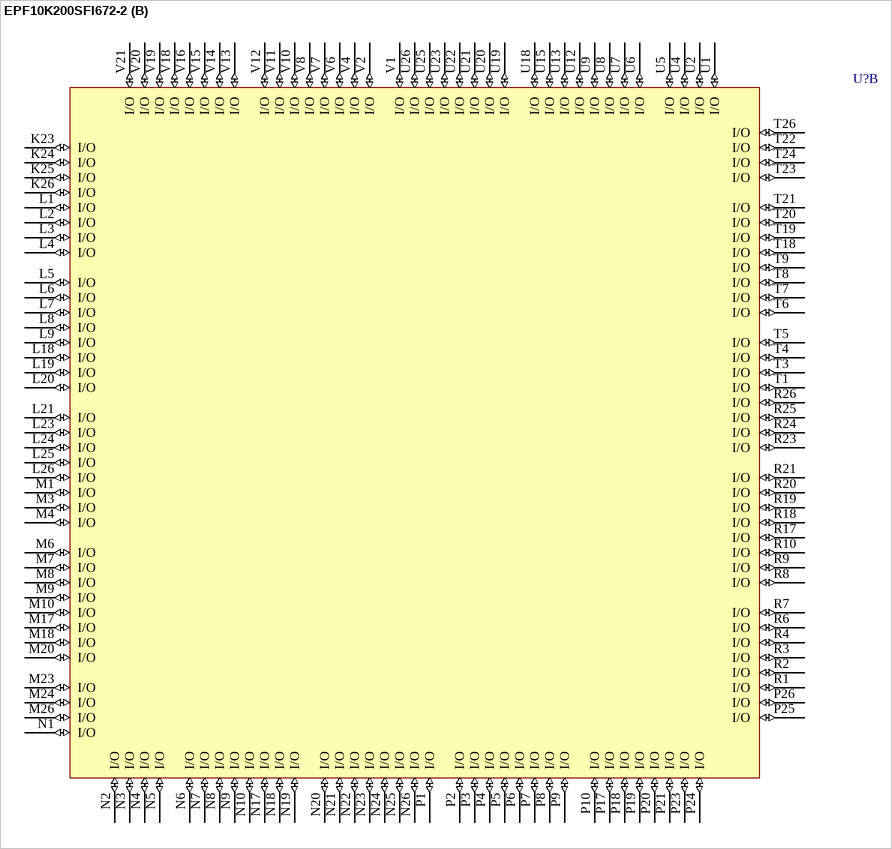
[diagram p384: symbol EPF10K200SFI672-2]

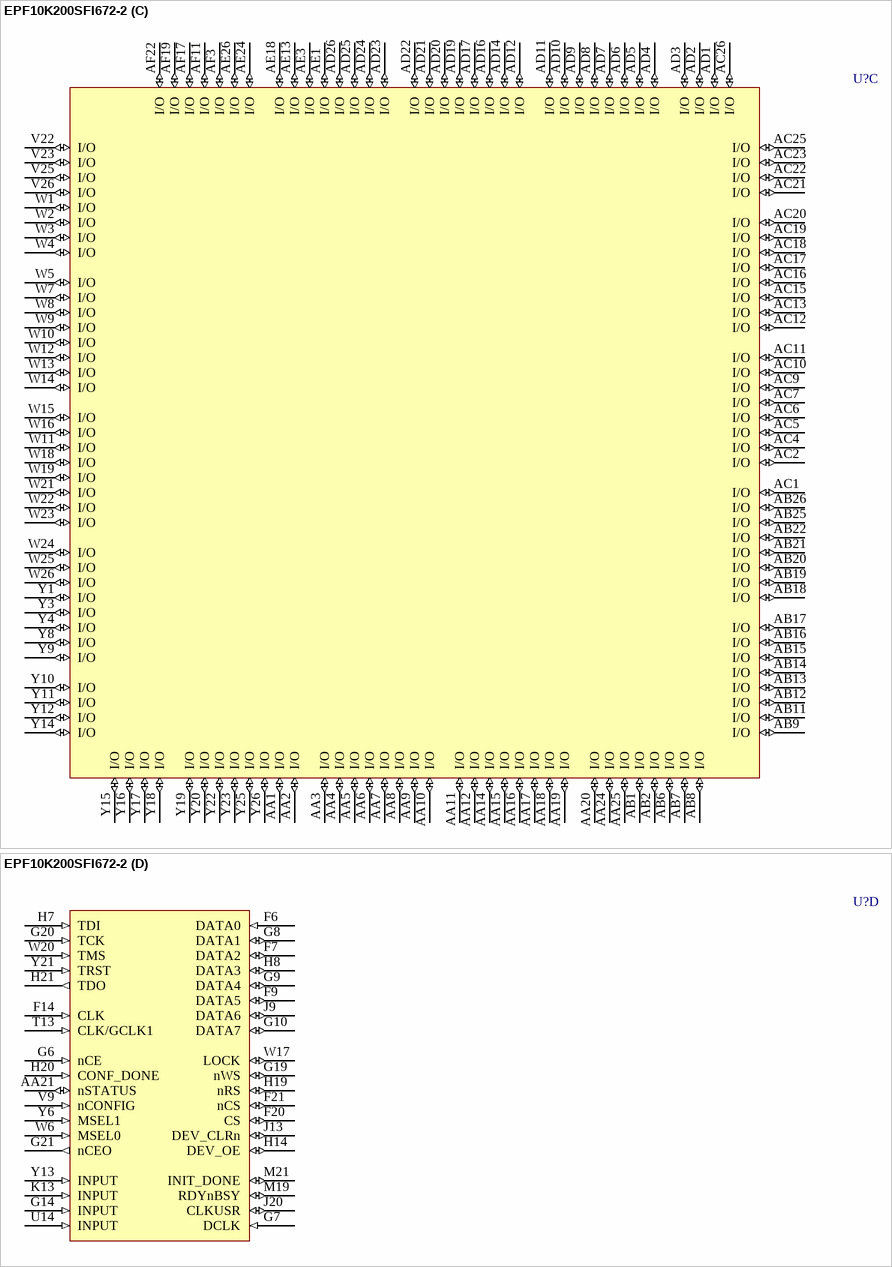
[diagram p385: symbol EPF10K200SFI672-2]

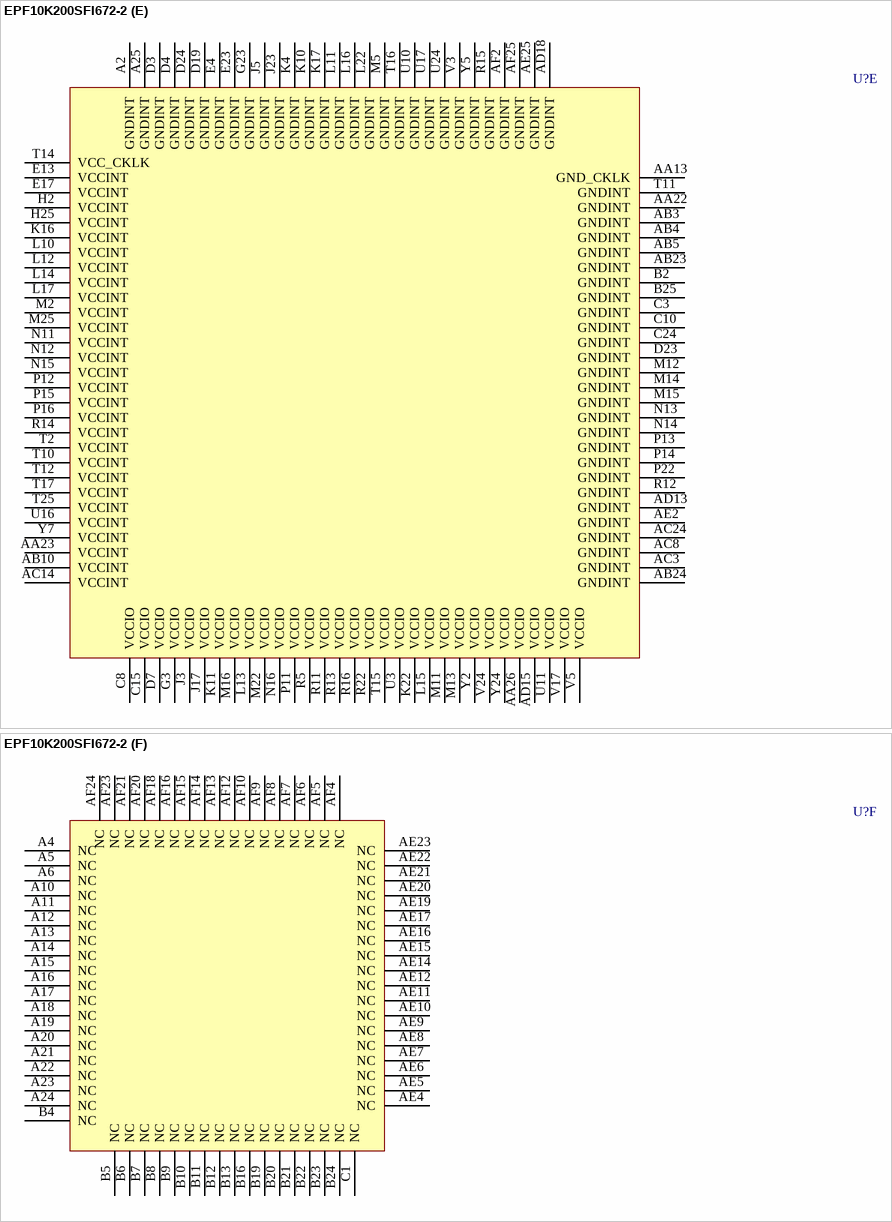
[diagram p386: symbol EPF10K200SFI672-2]